# Altium integrated library Atmel AT40K.IntLib: 139 symbols (part 9 of 12)
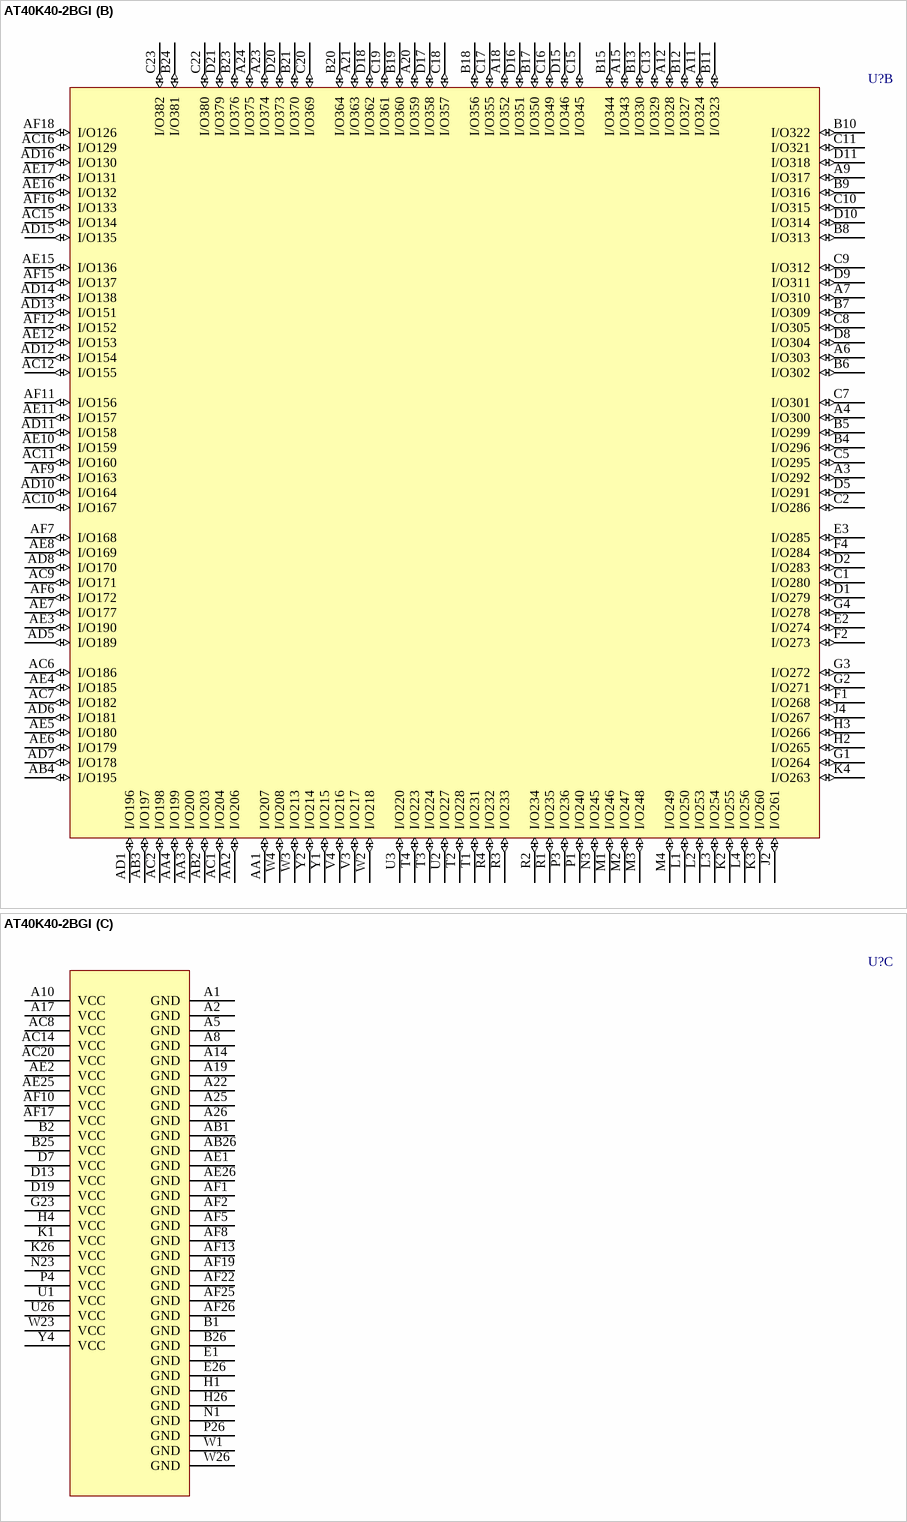
[diagram p96: symbol AT40K40-2BGI]

## AT40K40-2BGI
designator U?
AT40K40 5.0V FPGA, 289 User I/Os, 352-Ball SBGA, Speed Grade 2, Industrial Grade; Published: 17-Dec-2003; LatestRevisionDate: 13-Apr-2006; LatestRevisionNote: IPC-7351 Footprint Added.; DatasheetVersion: Rev. 0896C-04/02; PackageVersion: rev.A, Mar-2002; PackageReference: 352C1; Publisher: Altium Limited; PackageDescription: 352-ball, 35 x 35, Enhanced, Low-profile Square Ball Grid Array Package (SBGA); Supplier 1: Digi-Key; Supplier Part Number 1: AT40K40-2BGI-ND; Code_JEDEC: MO-192-BAR-2; ComponentLink1Description: Manufacturer Link; ComponentLink1URL: http://www.atmel.com/products/FPGA/; ComponentLink2Description: Datasheet; ComponentLink2URL: http://www.atmel.com/dyn/resources/prod_documents/DOC0896.PDF; ComponentLink3Description: Atmel.com Home; ComponentLink3URL: http://www.atmel.com
footprint 352C1 (BGA, 352-Leads, Body 35x35mm, Pitch 1.27mm)
part A pins: A13 I/O335(A6) (io), A16 I/O347(A10) (io), AA23 I/O93 (io), AA24 I/O86 (io), AA25 I/O84 (io), AA26 I/O81 (io), AB23 M1 (in), AB24 I/O94 (io), AB25 I/O85 (io), AC3 I/O194,GCK5 (io), AC4 ~{RESET} (in), AC5 I/O192,GCK4 (io), AC13 I/O146(D13) (io), AC17 I/O123 (io), AC18 I/O120 (io), AC19 I/O112 (io), AC21 I/O105 (io), AC22 I/O99 (io), AC23 M2 (in), AC24 I/O96,GCK2 (io), AC25 I/O92 (io), AC26 I/O90 (io), AD2 I/O193(D7) (io), AD3 ~{CON} (oc), AD4 I/O191(D8) (io), AD9 I/O166(D11) (io), AD17 I/O124 (io), AD18 I/O121 (io), AD19 I/O117 (io), AD20 I/O109 (io), AD21 I/O106 (io), AD22 I/O101 (io), AD23 I/O98(HDC) (io), AD24 M0 (in), AD25 I/O95(~{OTS}) (io), AD26 I/O91 (io), AE9 I/O165(D12) (io), AE13 I/O145(D14) (io), AE14 I/O143(D15) (io), AE18 I/O125 (io), AE19 I/O122 (io), AE20 I/O118 (io), AE21 I/O110 (io), AE22 I/O107 (io), AE23 I/O102(LDC) (io), AE24 I/O97,GCK3 (io), AF3 I/O184(D9) (io), AF4 I/O183(D10) (io), AF14 I/O144(INIT) (io), AF20 I/O119 (io), AF21 I/O111 (io), AF23 I/O108 (io), AF24 I/O100 (io), B3 I/O289(A0) (io), B14 I/O336(A7) (io), B16 I/O348(A11) (io), B22 I/O371(A12) (io), C3 CCLK (io), C4 I/O290,GCK7(A1) (io), C6 I/O298(A3) (io), C12 I/O326(A5) (io), C14 I/O338(A9) (io), C21 I/O372(A13) (io), C24 I/O384,GCK8(A15) (io), C25 I/O2(A17) (io), C26 I/O5(A18) (io), D3 I/O287(D0) (io), D4 TSTCLK, D6 I/O297(~{CS}1,A2) (io), D12 I/O325(A4) (io), D14 I/O337(A8) (io), D22 I/O383(A14) (io), D23 I/O1,GCK1(A16) (io), D24 I/O3 (io), D25 I/O9 (io), D26 I/O15 (io), E4 I/O288,GCK6(~{CSOUT}) (io), E23 I/O4 (io), E24 I/O6(A19) (io), E25 I/O12 (io), F3 I/O277(D1) (io), F23 I/O10 (io), F24 I/O11 (io), F25 I/O17 (io), F26 I/O18 (io), G24 I/O16 (io), G25 I/O23 (io), G26 I/O24 (io), H23 I/O21 (io), H24 I/O22 (io), H25 I/O27(A20) (io), J1 I/O259(D2) (io), J3 I/O262,FCK4 (io), J23 I/O25,FCK1 (io), J24 I/O26 (io), J25 I/O30 (io), J26 I/O33 (io), K23 I/O28(A21) (io), K24 I/O29 (io), K25 I/O36 (io), L23 I/O34 (io), L24 I/O35 (io), L25 I/O39 (io), L26 I/O40 (io), M23 I/O41 (io), M24 I/O42 (io), M25 I/O43 (io), M26 I/O44 (io), N2 I/O241(D3) (io), N4 I/O242(~{CHECK}) (io), N24 I/O47(A22) (io), N25 I/O48(A23) (io), N26 I/O49 (io), P2 I/O239(D4) (io), P23 I/O53 (io), P24 I/O54 (io), P25 I/O50 (io), R23 I/O58 (io), R24 I/O57 (io), R25 I/O56 (io), R26 I/O55 (io), T23 I/O67 (io), T24 I/O65 (io), T25 I/O62 (io), T26 I/O61 (io), U4 I/O219,FCK3 (io), U23 I/O72,FCK2 (io), U24 I/O69 (io), U25 I/O66 (io), V1 I/O222(CS0) (io), V2 I/O221(D5) (io), V23 I/O76 (io), V24 I/O71 (io), V25 I/O70 (io), V26 I/O68 (io), W24 I/O75 (io), W25 I/O74 (io), Y3 I/O205(D6) (io), Y23 I/O89 (io), Y24 I/O83 (io), Y25 I/O82 (io), Y26 I/O73 (io)
part B pins: A3 I/O292 (io), A4 I/O300 (io), A6 I/O303 (io), A7 I/O310 (io), A9 I/O317 (io), A11 I/O324 (io), A12 I/O328 (io), A15 I/O343 (io), A18 I/O352 (io), A20 I/O359 (io), A21 I/O363 (io), A23 I/O374 (io), A24 I/O375 (io), AA1 I/O207 (io), AA2 I/O206 (io), AA3 I/O200 (io), AA4 I/O199 (io), AB2 I/O203 (io), AB3 I/O197 (io), AB4 I/O195 (io), AC1 I/O204 (io), AC2 I/O198 (io), AC6 I/O186 (io), AC7 I/O182 (io), AC9 I/O171 (io), AC10 I/O167 (io), AC11 I/O160 (io), AC12 I/O155 (io), AC15 I/O134 (io), AC16 I/O129 (io), AD1 I/O196 (io), AD5 I/O189 (io), AD6 I/O181 (io), AD7 I/O178 (io), AD8 I/O170 (io), AD10 I/O164 (io), AD11 I/O158 (io), AD12 I/O154 (io), AD13 I/O151 (io), AD14 I/O138 (io), AD15 I/O135 (io), AD16 I/O130 (io), AE3 I/O190 (io), AE4 I/O185 (io), AE5 I/O180 (io), AE6 I/O179 (io), AE7 I/O177 (io), AE8 I/O169 (io), AE10 I/O159 (io), AE11 I/O157 (io), AE12 I/O153 (io), AE15 I/O136 (io), AE16 I/O132 (io), AE17 I/O131 (io), AF6 I/O172 (io), AF7 I/O168 (io), AF9 I/O163 (io), AF11 I/O156 (io), AF12 I/O152 (io), AF15 I/O137 (io), AF16 I/O133 (io), AF18 I/O126 (io), B4 I/O296 (io), B5 I/O299 (io), B6 I/O302 (io), B7 I/O309 (io), B8 I/O313 (io), B9 I/O316 (io), B10 I/O322 (io), B11 I/O323 (io), B12 I/O327 (io), B13 I/O330 (io), B15 I/O344 (io), B17 I/O350 (io), B18 I/O356 (io), B19 I/O360 (io), B20 I/O364 (io), B21 I/O370 (io), B23 I/O376 (io), B24 I/O381 (io), C1 I/O280 (io), C2 I/O286 (io), C5 I/O295 (io), C7 I/O301 (io), C8 I/O305 (io), C9 I/O312 (io), C10 I/O315 (io), C11 I/O321 (io), C13 I/O329 (io), C15 I/O345 (io), C16 I/O349 (io), C17 I/O355 (io), C18 I/O357 (io), C19 I/O361 (io), C20 I/O369 (io), C22 I/O380 (io), C23 I/O382 (io), D1 I/O279 (io), D2 I/O283 (io), D5 I/O291 (io), D8 I/O304 (io), D9 I/O311 (io), D10 I/O314 (io), D11 I/O318 (io), D15 I/O346 (io), D16 I/O351 (io), D17 I/O358 (io), D18 I/O362 (io), D20 I/O373 (io), D21 I/O379 (io), E2 I/O274 (io), E3 I/O285 (io), F1 I/O268 (io), F2 I/O273 (io), F4 I/O284 (io), G1 I/O264 (io), G2 I/O271 (io), G3 I/O272 (io), G4 I/O278 (io), H2 I/O265 (io), H3 I/O266 (io), J2 I/O261 (io), J4 I/O267 (io), K2 I/O255 (io), K3 I/O260 (io), K4 I/O263 (io), L1 I/O250 (io), L2 I/O253 (io), L3 I/O254 (io), L4 I/O256 (io), M1 I/O246 (io), M2 I/O247 (io), M3 I/O248 (io), M4 I/O249 (io), N3 I/O245 (io), P1 I/O240 (io), P3 I/O236 (io), R1 I/O235 (io), R2 I/O234 (io), R3 I/O233 (io), R4 I/O232 (io), T1 I/O231 (io), T2 I/O228 (io), T3 I/O224 (io), T4 I/O223 (io), U2 I/O227 (io), U3 I/O220 (io), V3 I/O217 (io), V4 I/O216 (io), W2 I/O218 (io), W3 I/O213 (io), W4 I/O208 (io), Y1 I/O215 (io), Y2 I/O214 (io)
part C pins: A1 GND (power), A2 GND (power), A5 GND (power), A8 GND (power), A10 VCC (power), A14 GND (power), A17 VCC (power), A19 GND (power), A22 GND (power), A25 GND (power), A26 GND (power), AB1 GND (power), AB26 GND (power), AC8 VCC (power), AC14 VCC (power), AC20 VCC (power), AE1 GND (power), AE2 VCC (power), AE25 VCC (power), AE26 GND (power), AF1 GND (power), AF2 GND (power), AF5 GND (power), AF8 GND (power), AF10 VCC (power), AF13 GND (power), AF17 VCC (power), AF19 GND (power), AF22 GND (power), AF25 GND (power), AF26 GND (power), B1 GND (power), B2 VCC (power), B25 VCC (power), B26 GND (power), D7 VCC (power), D13 VCC (power), D19 VCC (power), E1 GND (power), E26 GND (power), G23 VCC (power), H1 GND (power), H4 VCC (power), H26 GND (power), K1 VCC (power), K26 VCC (power), N1 GND (power), N23 VCC (power), P4 VCC (power), P26 GND (power), U1 VCC (power), U26 VCC (power), W1 GND (power), W23 VCC (power), W26 GND (power), Y4 VCC (power)

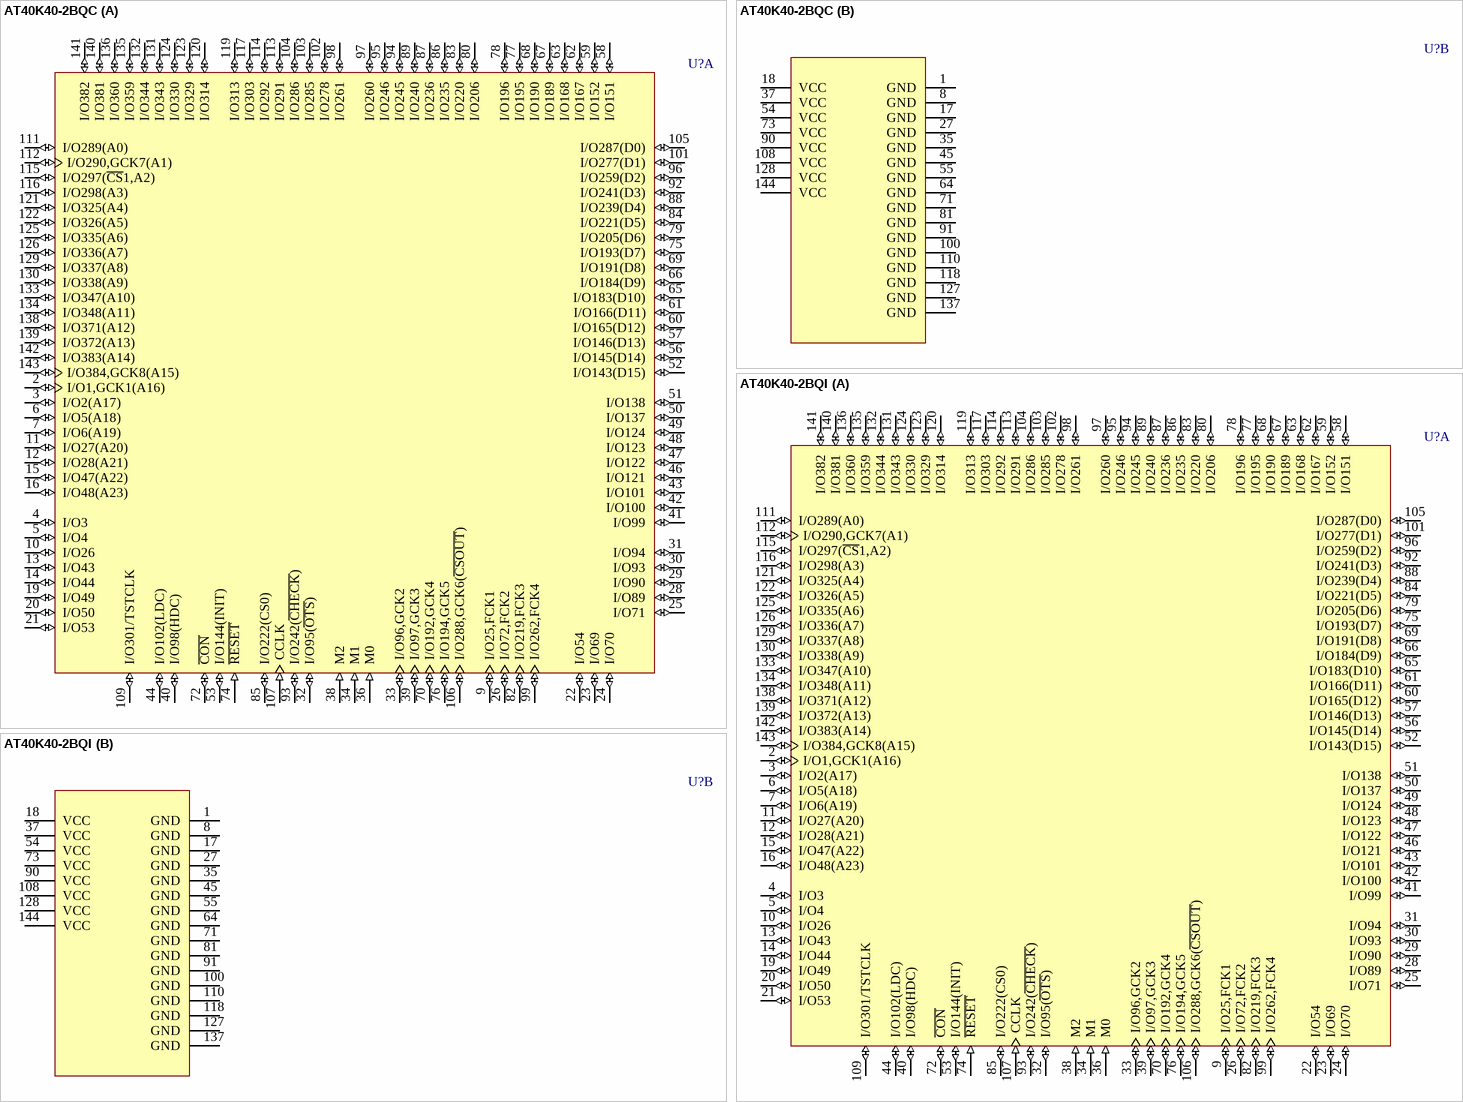
[diagram p57: symbols AT40K40-2BQC to AT40K40-2BQI]

## AT40K40-2BQC
designator U?
AT40K40 5.0V FPGA, 114 User I/Os, 144-Lead LQFP, Speed Grade 2, Commercial Grade; Published: 15-Apr-2002; LatestRevisionDate: 13-Apr-2006; LatestRevisionNote: IPC-7351 Footprint Added.; DatasheetVersion: Rev. 0896C-04/02; PackageVersion: rev.A, Nov-2001; PackageReference: 144L1; Publisher: Altium Limited; PackageDescription: 144-Pin Thin Quad Flat Pack 0.5 mm Pitch; Supplier 1: Digi-Key; Supplier Part Number 1: AT40K40-2BQC-ND; Supplier 2: Mouser; Supplier Part Number 2: 556-AT40K40-2BQC; Code_JEDEC: MS-026-BFB; ComponentLink1Description: Manufacturer Link; ComponentLink1URL: http://www.atmel.com/products/FPGA/; ComponentLink2Description: Datasheet; ComponentLink2URL: http://www.atmel.com/dyn/resources/prod_documents/DOC0896.PDF; ComponentLink3Description: Atmel.com Home; ComponentLink3URL: http://www.atmel.com
footprint 144L1_N (Thin QFP, 144-Leads, Body 20x20mm, Pitch 0.5mm, IPC Medium Density)
footprint 144L1_L (Thin QFP, 144-Leads, Body 20x20mm, Pitch 0.5mm, IPC High Density)
footprint 144L1_M (Thin QFP, 144-Leads, Body 20x20mm, Pitch 0.5mm, IPC Low Density)
part A pins: 2 I/O1,GCK1(A16) (io), 3 I/O2(A17) (io), 4 I/O3 (io), 5 I/O4 (io), 6 I/O5(A18) (io), 7 I/O6(A19) (io), 9 I/O25,FCK1 (io), 10 I/O26 (io), 11 I/O27(A20) (io), 12 I/O28(A21) (io), 13 I/O43 (io), 14 I/O44 (io), 15 I/O47(A22) (io), 16 I/O48(A23) (io), 19 I/O49 (io), 20 I/O50 (io), 21 I/O53 (io), 22 I/O54 (io), 23 I/O69 (io), 24 I/O70 (io), 25 I/O71 (io), 26 I/O72,FCK2 (io), 28 I/O89 (io), 29 I/O90 (io), 30 I/O93 (io), 31 I/O94 (io), 32 I/O95(~{OTS}) (io), 33 I/O96,GCK2 (io), 34 M1 (in), 36 M0 (in), 38 M2 (in), 39 I/O97,GCK3 (io), 40 I/O98(HDC) (io), 41 I/O99 (io), 42 I/O100 (io), 43 I/O101 (io), 44 I/O102(LDC) (io), 46 I/O121 (io), 47 I/O122 (io), 48 I/O123 (io), 49 I/O124 (io), 50 I/O137 (io), 51 I/O138 (io), 52 I/O143(D15) (io), 53 I/O144(INIT) (io), 56 I/O145(D14) (io), 57 I/O146(D13) (io), 58 I/O151 (io), 59 I/O152 (io), 60 I/O165(D12) (io), 61 I/O166(D11) (io), 62 I/O167 (io), 63 I/O168 (io), 65 I/O183(D10) (io), 66 I/O184(D9) (io), 67 I/O189 (io), 68 I/O190 (io), 69 I/O191(D8) (io), 70 I/O192,GCK4 (io), 72 ~{CON} (io), 74 ~{RESET} (in), 75 I/O193(D7) (io), 76 I/O194,GCK5 (io), 77 I/O195 (io), 78 I/O196 (io), 79 I/O205(D6) (io), 80 I/O206 (io), 82 I/O219,FCK3 (io), 83 I/O220 (io), 84 I/O221(D5) (io), 85 I/O222(CS0) (io), 86 I/O235 (io), 87 I/O236 (io), 88 I/O239(D4) (io), 89 I/O240 (io), 92 I/O241(D3) (io), 93 I/O242(~{CHECK}) (io), 94 I/O245 (io), 95 I/O246 (io), 96 I/O259(D2) (io), 97 I/O260 (io), 98 I/O261 (io), 99 I/O262,FCK4 (io), 101 I/O277(D1) (io), 102 I/O278 (io), 103 I/O285 (io), 104 I/O286 (io), 105 I/O287(D0) (io), 106 I/O288,GCK6(~{CSOUT}) (io), 107 CCLK (in), 109 I/O301/TSTCLK (io), 111 I/O289(A0) (io), 112 I/O290,GCK7(A1) (io), 113 I/O291 (io), 114 I/O292 (io), 115 I/O297(~{CS}1,A2) (io), 116 I/O298(A3) (io), 117 I/O303 (io), 119 I/O313 (io), 120 I/O314 (io), 121 I/O325(A4) (io), 122 I/O326(A5) (io), 123 I/O329 (io), 124 I/O330 (io), 125 I/O335(A6) (io), 126 I/O336(A7) (io), 129 I/O337(A8) (io), 130 I/O338(A9) (io), 131 I/O343 (io), 132 I/O344 (io), 133 I/O347(A10) (io), 134 I/O348(A11) (io), 135 I/O359 (io), 136 I/O360 (io), 138 I/O371(A12) (io), 139 I/O372(A13) (io), 140 I/O381 (io), 141 I/O382 (io), 142 I/O383(A14) (io), 143 I/O384,GCK8(A15) (io)
part B pins: 1 GND (power), 8 GND (power), 17 GND (power), 18 VCC (power), 27 GND (power), 35 GND (power), 37 VCC (power), 45 GND (power), 54 VCC (power), 55 GND (power), 64 GND (power), 71 GND (power), 73 VCC (power), 81 GND (power), 90 VCC (power), 91 GND (power), 100 GND (power), 108 VCC (power), 110 GND (power), 118 GND (power), 127 GND (power), 128 VCC (power), 137 GND (power), 144 VCC (power)

## AT40K40-2BQI
designator U?
AT40K40 5.0V FPGA, 114 User I/Os, 144-Lead LQFP, Speed Grade 2, Industrial Grade; Published: 15-Apr-2002; LatestRevisionDate: 13-Apr-2006; LatestRevisionNote: IPC-7351 Footprint Added.; DatasheetVersion: Rev. 0896C-04/02; PackageVersion: rev.A, Nov-2001; PackageReference: 144L1; Publisher: Altium Limited; PackageDescription: 144-Pin Thin Quad Flat Pack 0.5 mm Pitch; Supplier 1: Digi-Key; Supplier Part Number 1: AT40K40-2BQI-ND; Supplier 2: Mouser; Supplier Part Number 2: 556-AT40K40-2BQI; Code_JEDEC: MS-026-BFB; ComponentLink1Description: Manufacturer Link; ComponentLink1URL: http://www.atmel.com/products/FPGA/; ComponentLink2Description: Datasheet; ComponentLink2URL: http://www.atmel.com/dyn/resources/prod_documents/DOC0896.PDF; ComponentLink3Description: Atmel.com Home; ComponentLink3URL: http://www.atmel.com
footprint 144L1_N (Thin QFP, 144-Leads, Body 20x20mm, Pitch 0.5mm, IPC Medium Density)
footprint 144L1_L (Thin QFP, 144-Leads, Body 20x20mm, Pitch 0.5mm, IPC High Density)
footprint 144L1_M (Thin QFP, 144-Leads, Body 20x20mm, Pitch 0.5mm, IPC Low Density)
part A pins: 2 I/O1,GCK1(A16) (io), 3 I/O2(A17) (io), 4 I/O3 (io), 5 I/O4 (io), 6 I/O5(A18) (io), 7 I/O6(A19) (io), 9 I/O25,FCK1 (io), 10 I/O26 (io), 11 I/O27(A20) (io), 12 I/O28(A21) (io), 13 I/O43 (io), 14 I/O44 (io), 15 I/O47(A22) (io), 16 I/O48(A23) (io), 19 I/O49 (io), 20 I/O50 (io), 21 I/O53 (io), 22 I/O54 (io), 23 I/O69 (io), 24 I/O70 (io), 25 I/O71 (io), 26 I/O72,FCK2 (io), 28 I/O89 (io), 29 I/O90 (io), 30 I/O93 (io), 31 I/O94 (io), 32 I/O95(~{OTS}) (io), 33 I/O96,GCK2 (io), 34 M1 (in), 36 M0 (in), 38 M2 (in), 39 I/O97,GCK3 (io), 40 I/O98(HDC) (io), 41 I/O99 (io), 42 I/O100 (io), 43 I/O101 (io), 44 I/O102(LDC) (io), 46 I/O121 (io), 47 I/O122 (io), 48 I/O123 (io), 49 I/O124 (io), 50 I/O137 (io), 51 I/O138 (io), 52 I/O143(D15) (io), 53 I/O144(INIT) (io), 56 I/O145(D14) (io), 57 I/O146(D13) (io), 58 I/O151 (io), 59 I/O152 (io), 60 I/O165(D12) (io), 61 I/O166(D11) (io), 62 I/O167 (io), 63 I/O168 (io), 65 I/O183(D10) (io), 66 I/O184(D9) (io), 67 I/O189 (io), 68 I/O190 (io), 69 I/O191(D8) (io), 70 I/O192,GCK4 (io), 72 ~{CON} (io), 74 ~{RESET} (in), 75 I/O193(D7) (io), 76 I/O194,GCK5 (io), 77 I/O195 (io), 78 I/O196 (io), 79 I/O205(D6) (io), 80 I/O206 (io), 82 I/O219,FCK3 (io), 83 I/O220 (io), 84 I/O221(D5) (io), 85 I/O222(CS0) (io), 86 I/O235 (io), 87 I/O236 (io), 88 I/O239(D4) (io), 89 I/O240 (io), 92 I/O241(D3) (io), 93 I/O242(~{CHECK}) (io), 94 I/O245 (io), 95 I/O246 (io), 96 I/O259(D2) (io), 97 I/O260 (io), 98 I/O261 (io), 99 I/O262,FCK4 (io), 101 I/O277(D1) (io), 102 I/O278 (io), 103 I/O285 (io), 104 I/O286 (io), 105 I/O287(D0) (io), 106 I/O288,GCK6(~{CSOUT}) (io), 107 CCLK (in), 109 I/O301/TSTCLK (io), 111 I/O289(A0) (io), 112 I/O290,GCK7(A1) (io), 113 I/O291 (io), 114 I/O292 (io), 115 I/O297(~{CS}1,A2) (io), 116 I/O298(A3) (io), 117 I/O303 (io), 119 I/O313 (io), 120 I/O314 (io), 121 I/O325(A4) (io), 122 I/O326(A5) (io), 123 I/O329 (io), 124 I/O330 (io), 125 I/O335(A6) (io), 126 I/O336(A7) (io), 129 I/O337(A8) (io), 130 I/O338(A9) (io), 131 I/O343 (io), 132 I/O344 (io), 133 I/O347(A10) (io), 134 I/O348(A11) (io), 135 I/O359 (io), 136 I/O360 (io), 138 I/O371(A12) (io), 139 I/O372(A13) (io), 140 I/O381 (io), 141 I/O382 (io), 142 I/O383(A14) (io), 143 I/O384,GCK8(A15) (io)
part B pins: 1 GND (power), 8 GND (power), 17 GND (power), 18 VCC (power), 27 GND (power), 35 GND (power), 37 VCC (power), 45 GND (power), 54 VCC (power), 55 GND (power), 64 GND (power), 71 GND (power), 73 VCC (power), 81 GND (power), 90 VCC (power), 91 GND (power), 100 GND (power), 108 VCC (power), 110 GND (power), 118 GND (power), 127 GND (power), 128 VCC (power), 137 GND (power), 144 VCC (power)

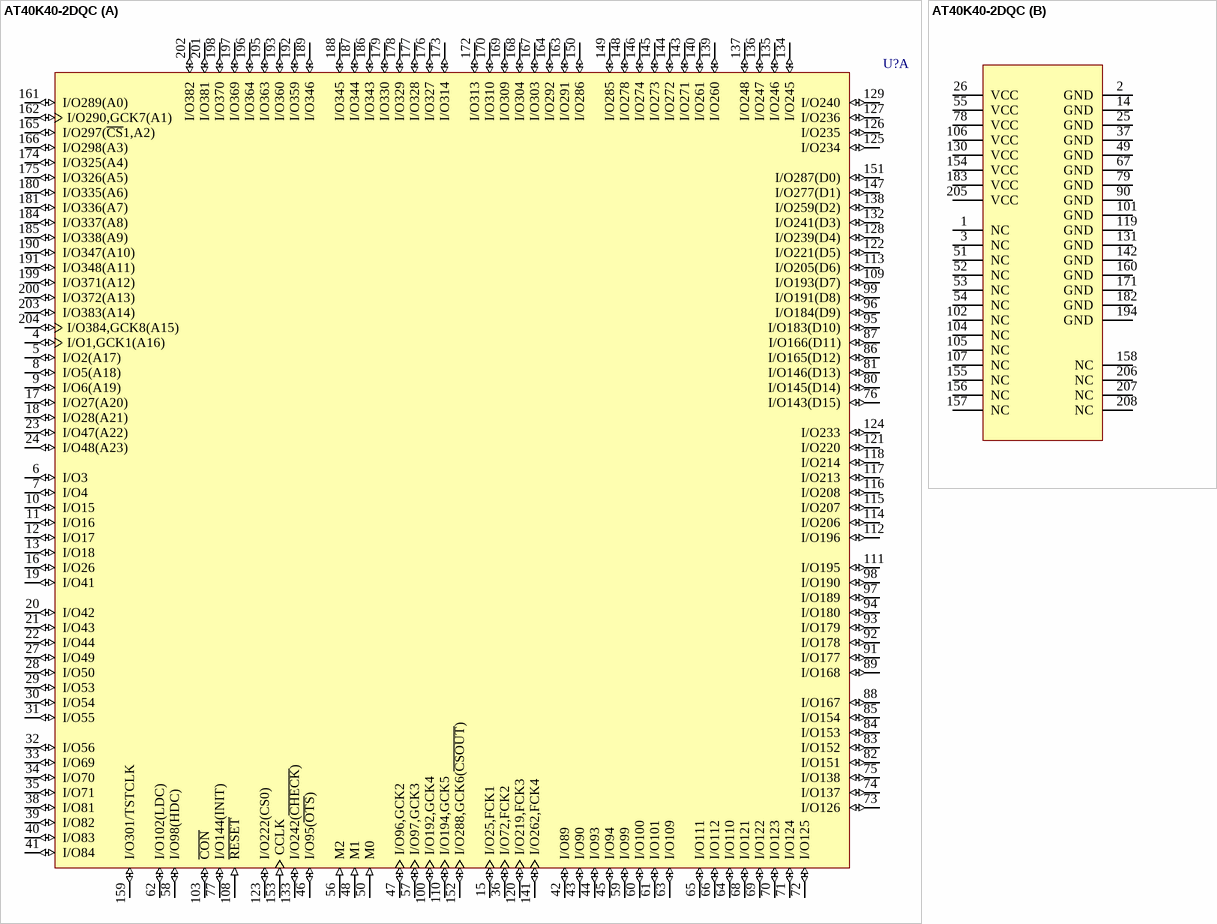
[diagram p58: symbol AT40K40-2DQC]

## AT40K40-2DQC
designator U?
AT40K40 5.0V FPGA, 161 User I/Os, 208-Lead PQFP, Speed Grade 2, Commercial Grade; Published: 15-Apr-2002; LatestRevisionDate: 13-Apr-2006; LatestRevisionNote: IPC-7351 Footprint Added.; DatasheetVersion: Rev. 0896C-04/02; PackageVersion: rev.A, Nov-2001; PackageReference: 208Q1; Publisher: Altium Limited; PackageDescription: 208-Pin Shrink Quad Flat Pack 0.5 mm Pitch; Supplier 1: Digi-Key; Supplier Part Number 1: AT40K40-2DQC-ND; Supplier 2: Mouser; Supplier Part Number 2: 556-AT40K40-2DQC; ComponentLink1Description: Manufacturer Link; ComponentLink1URL: http://www.atmel.com/products/FPGA/; ComponentLink2Description: Datasheet; ComponentLink2URL: http://www.atmel.com/dyn/resources/prod_documents/DOC0896.PDF; ComponentLink3Description: Atmel.com Home; ComponentLink3URL: http://www.atmel.com
footprint 208Q1_N (Shrink QFP, 208-Leads, Body 28x28mm, Pitch 0.5mm, IPC Medium Density)
footprint 208Q1_L (Shrink QFP, 208-Leads, Body 28x28mm, Pitch 0.5mm, IPC High Density)
footprint 208Q1_M (Shrink QFP, 208-Leads, Body 28x28mm, Pitch 0.5mm, IPC Low Density)
part A pins: 4 I/O1,GCK1(A16) (io), 5 I/O2(A17) (io), 6 I/O3 (io), 7 I/O4 (io), 8 I/O5(A18) (io), 9 I/O6(A19) (io), 10 I/O15 (io), 11 I/O16 (io), 12 I/O17 (io), 13 I/O18 (io), 15 I/O25,FCK1 (io), 16 I/O26 (io), 17 I/O27(A20) (io), 18 I/O28(A21) (io), 19 I/O41 (io), 20 I/O42 (io), 21 I/O43 (io), 22 I/O44 (io), 23 I/O47(A22) (io), 24 I/O48(A23) (io), 27 I/O49 (io), 28 I/O50 (io), 29 I/O53 (io), 30 I/O54 (io), 31 I/O55 (io), 32 I/O56 (io), 33 I/O69 (io), 34 I/O70 (io), 35 I/O71 (io), 36 I/O72,FCK2 (io), 38 I/O81 (io), 39 I/O82 (io), 40 I/O83 (io), 41 I/O84 (io), 42 I/O89 (io), 43 I/O90 (io), 44 I/O93 (io), 45 I/O94 (io), 46 I/O95(~{OTS}) (io), 47 I/O96,GCK2 (io), 48 M1 (in), 50 M0 (in), 56 M2 (in), 57 I/O97,GCK3 (io), 58 I/O98(HDC) (io), 59 I/O99 (io), 60 I/O100 (io), 61 I/O101 (io), 62 I/O102(LDC) (io), 63 I/O109 (io), 64 I/O110 (io), 65 I/O111 (io), 66 I/O112 (io), 68 I/O121 (io), 69 I/O122 (io), 70 I/O123 (io), 71 I/O124 (io), 72 I/O125 (io), 73 I/O126 (io), 74 I/O137 (io), 75 I/O138 (io), 76 I/O143(D15) (io), 77 I/O144(INIT) (io), 80 I/O145(D14) (io), 81 I/O146(D13) (io), 82 I/O151 (io), 83 I/O152 (io), 84 I/O153 (io), 85 I/O154 (io), 86 I/O165(D12) (io), 87 I/O166(D11) (io), 88 I/O167 (io), 89 I/O168 (io), 91 I/O177 (io), 92 I/O178 (io), 93 I/O179 (io), 94 I/O180 (io), 95 I/O183(D10) (io), 96 I/O184(D9) (io), 97 I/O189 (io), 98 I/O190 (io), 99 I/O191(D8) (io), 100 I/O192,GCK4 (io), 103 ~{CON} (io), 108 ~{RESET} (in), 109 I/O193(D7) (io), 110 I/O194,GCK5 (io), 111 I/O195 (io), 112 I/O196 (io), 113 I/O205(D6) (io), 114 I/O206 (io), 115 I/O207 (io), 116 I/O208 (io), 117 I/O213 (io), 118 I/O214 (io), 120 I/O219,FCK3 (io), 121 I/O220 (io), 122 I/O221(D5) (io), 123 I/O222(CS0) (io), 124 I/O233 (io), 125 I/O234 (io), 126 I/O235 (io), 127 I/O236 (io), 128 I/O239(D4) (io), 129 I/O240 (io), 132 I/O241(D3) (io), 133 I/O242(~{CHECK}) (io), 134 I/O245 (io), 135 I/O246 (io), 136 I/O247 (io), 137 I/O248 (io), 138 I/O259(D2) (io), 139 I/O260 (io), 140 I/O261 (io), 141 I/O262,FCK4 (io), 143 I/O271 (io), 144 I/O272 (io), 145 I/O273 (io), 146 I/O274 (io), 147 I/O277(D1) (io), 148 I/O278 (io), 149 I/O285 (io), 150 I/O286 (io), 151 I/O287(D0) (io), 152 I/O288,GCK6(~{CSOUT}) (io), 153 CCLK (in), 159 I/O301/TSTCLK (io), 161 I/O289(A0) (io), 162 I/O290,GCK7(A1) (io), 163 I/O291 (io), 164 I/O292 (io), 165 I/O297(~{CS}1,A2) (io), 166 I/O298(A3) (io), 167 I/O303 (io), 168 I/O304 (io), 169 I/O309 (io), 170 I/O310 (io), 172 I/O313 (io), 173 I/O314 (io), 174 I/O325(A4) (io), 175 I/O326(A5) (io), 176 I/O327 (io), 177 I/O328 (io), 178 I/O329 (io), 179 I/O330 (io), 180 I/O335(A6) (io), 181 I/O336(A7) (io), 184 I/O337(A8) (io), 185 I/O338(A9) (io), 186 I/O343 (io), 187 I/O344 (io), 188 I/O345 (io), 189 I/O346 (io), 190 I/O347(A10) (io), 191 I/O348(A11) (io), 192 I/O359 (io), 193 I/O360 (io), 195 I/O363 (io), 196 I/O364 (io), 197 I/O369 (io), 198 I/O370 (io), 199 I/O371(A12) (io), 200 I/O372(A13) (io), 201 I/O381 (io), 202 I/O382 (io), 203 I/O383(A14) (io), 204 I/O384,GCK8(A15) (io)
part B pins: 1 NC, 2 GND (power), 3 NC, 14 GND (power), 25 GND (power), 26 VCC (power), 37 GND (power), 49 GND (power), 51 NC, 52 NC, 53 NC, 54 NC, 55 VCC (power), 67 GND (power), 78 VCC (power), 79 GND (power), 90 GND (power), 101 GND (power), 102 NC, 104 NC, 105 NC, 106 VCC (power), 107 NC, 119 GND (power), 130 VCC (power), 131 GND (power), 142 GND (power), 154 VCC (power), 155 NC, 156 NC, 157 NC, 158 NC, 160 GND (power), 171 GND (power), 182 GND (power), 183 VCC (power), 194 GND (power), 205 VCC (power), 206 NC, 207 NC, 208 NC

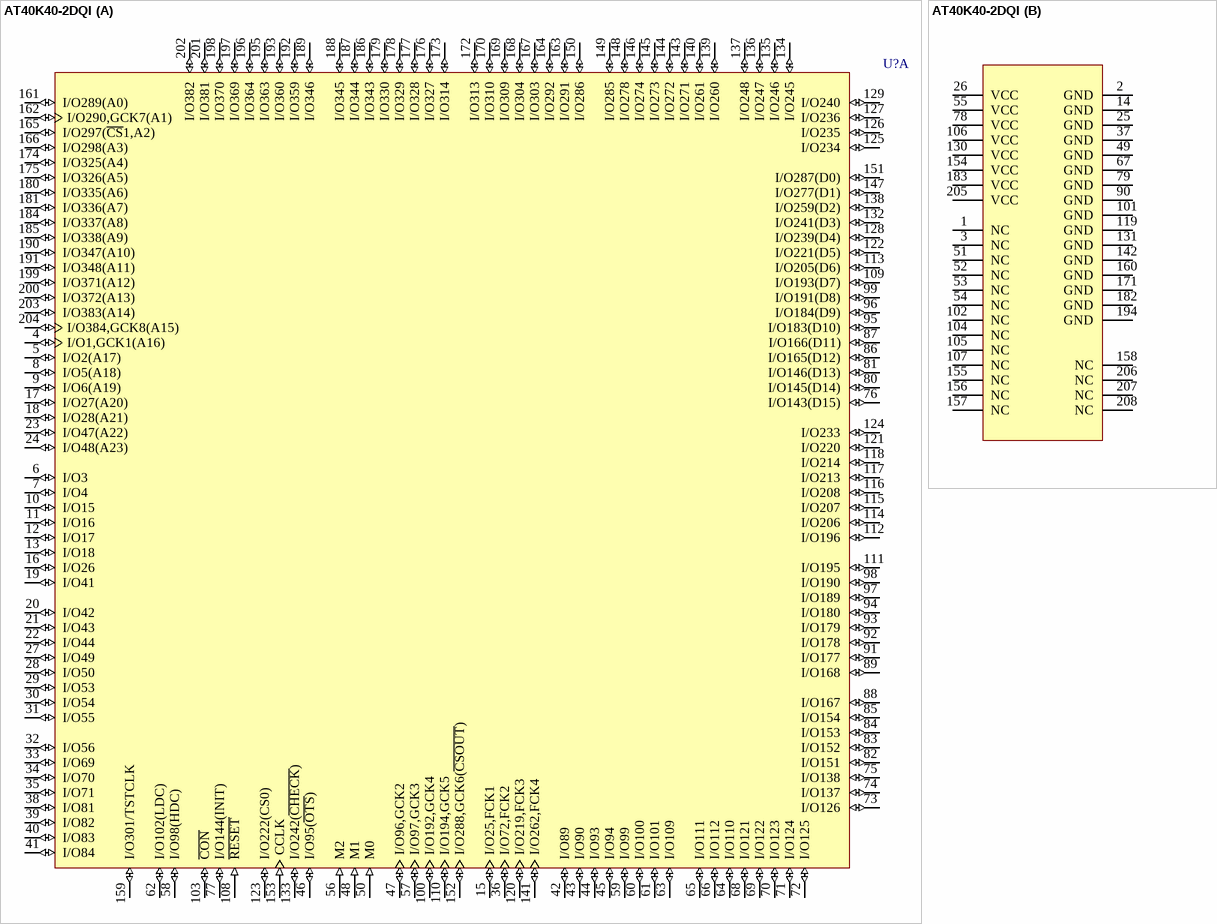
[diagram p59: symbol AT40K40-2DQI]

## AT40K40-2DQI
designator U?
AT40K40 5.0V FPGA, 161 User I/Os, 208-Lead PQFP, Speed Grade 2, Industrial Grade; Published: 15-Apr-2002; LatestRevisionDate: 13-Apr-2006; LatestRevisionNote: IPC-7351 Footprint Added.; DatasheetVersion: Rev. 0896C-04/02; PackageVersion: rev.A, Nov-2001; PackageReference: 208Q1; Publisher: Altium Limited; PackageDescription: 208-Pin Shrink Quad Flat Pack 0.5 mm Pitch; Supplier 1: Digi-Key; Supplier Part Number 1: AT40K40-2DQI-ND; Supplier 2: Mouser; Supplier Part Number 2: 556-AT40K40-2DQI; ComponentLink1Description: Manufacturer Link; ComponentLink1URL: http://www.atmel.com/products/FPGA/; ComponentLink2Description: Datasheet; ComponentLink2URL: http://www.atmel.com/dyn/resources/prod_documents/DOC0896.PDF; ComponentLink3Description: Atmel.com Home; ComponentLink3URL: http://www.atmel.com
footprint 208Q1_N (Shrink QFP, 208-Leads, Body 28x28mm, Pitch 0.5mm, IPC Medium Density)
footprint 208Q1_L (Shrink QFP, 208-Leads, Body 28x28mm, Pitch 0.5mm, IPC High Density)
footprint 208Q1_M (Shrink QFP, 208-Leads, Body 28x28mm, Pitch 0.5mm, IPC Low Density)
part A pins: 4 I/O1,GCK1(A16) (io), 5 I/O2(A17) (io), 6 I/O3 (io), 7 I/O4 (io), 8 I/O5(A18) (io), 9 I/O6(A19) (io), 10 I/O15 (io), 11 I/O16 (io), 12 I/O17 (io), 13 I/O18 (io), 15 I/O25,FCK1 (io), 16 I/O26 (io), 17 I/O27(A20) (io), 18 I/O28(A21) (io), 19 I/O41 (io), 20 I/O42 (io), 21 I/O43 (io), 22 I/O44 (io), 23 I/O47(A22) (io), 24 I/O48(A23) (io), 27 I/O49 (io), 28 I/O50 (io), 29 I/O53 (io), 30 I/O54 (io), 31 I/O55 (io), 32 I/O56 (io), 33 I/O69 (io), 34 I/O70 (io), 35 I/O71 (io), 36 I/O72,FCK2 (io), 38 I/O81 (io), 39 I/O82 (io), 40 I/O83 (io), 41 I/O84 (io), 42 I/O89 (io), 43 I/O90 (io), 44 I/O93 (io), 45 I/O94 (io), 46 I/O95(~{OTS}) (io), 47 I/O96,GCK2 (io), 48 M1 (in), 50 M0 (in), 56 M2 (in), 57 I/O97,GCK3 (io), 58 I/O98(HDC) (io), 59 I/O99 (io), 60 I/O100 (io), 61 I/O101 (io), 62 I/O102(LDC) (io), 63 I/O109 (io), 64 I/O110 (io), 65 I/O111 (io), 66 I/O112 (io), 68 I/O121 (io), 69 I/O122 (io), 70 I/O123 (io), 71 I/O124 (io), 72 I/O125 (io), 73 I/O126 (io), 74 I/O137 (io), 75 I/O138 (io), 76 I/O143(D15) (io), 77 I/O144(INIT) (io), 80 I/O145(D14) (io), 81 I/O146(D13) (io), 82 I/O151 (io), 83 I/O152 (io), 84 I/O153 (io), 85 I/O154 (io), 86 I/O165(D12) (io), 87 I/O166(D11) (io), 88 I/O167 (io), 89 I/O168 (io), 91 I/O177 (io), 92 I/O178 (io), 93 I/O179 (io), 94 I/O180 (io), 95 I/O183(D10) (io), 96 I/O184(D9) (io), 97 I/O189 (io), 98 I/O190 (io), 99 I/O191(D8) (io), 100 I/O192,GCK4 (io), 103 ~{CON} (io), 108 ~{RESET} (in), 109 I/O193(D7) (io), 110 I/O194,GCK5 (io), 111 I/O195 (io), 112 I/O196 (io), 113 I/O205(D6) (io), 114 I/O206 (io), 115 I/O207 (io), 116 I/O208 (io), 117 I/O213 (io), 118 I/O214 (io), 120 I/O219,FCK3 (io), 121 I/O220 (io), 122 I/O221(D5) (io), 123 I/O222(CS0) (io), 124 I/O233 (io), 125 I/O234 (io), 126 I/O235 (io), 127 I/O236 (io), 128 I/O239(D4) (io), 129 I/O240 (io), 132 I/O241(D3) (io), 133 I/O242(~{CHECK}) (io), 134 I/O245 (io), 135 I/O246 (io), 136 I/O247 (io), 137 I/O248 (io), 138 I/O259(D2) (io), 139 I/O260 (io), 140 I/O261 (io), 141 I/O262,FCK4 (io), 143 I/O271 (io), 144 I/O272 (io), 145 I/O273 (io), 146 I/O274 (io), 147 I/O277(D1) (io), 148 I/O278 (io), 149 I/O285 (io), 150 I/O286 (io), 151 I/O287(D0) (io), 152 I/O288,GCK6(~{CSOUT}) (io), 153 CCLK (in), 159 I/O301/TSTCLK (io), 161 I/O289(A0) (io), 162 I/O290,GCK7(A1) (io), 163 I/O291 (io), 164 I/O292 (io), 165 I/O297(~{CS}1,A2) (io), 166 I/O298(A3) (io), 167 I/O303 (io), 168 I/O304 (io), 169 I/O309 (io), 170 I/O310 (io), 172 I/O313 (io), 173 I/O314 (io), 174 I/O325(A4) (io), 175 I/O326(A5) (io), 176 I/O327 (io), 177 I/O328 (io), 178 I/O329 (io), 179 I/O330 (io), 180 I/O335(A6) (io), 181 I/O336(A7) (io), 184 I/O337(A8) (io), 185 I/O338(A9) (io), 186 I/O343 (io), 187 I/O344 (io), 188 I/O345 (io), 189 I/O346 (io), 190 I/O347(A10) (io), 191 I/O348(A11) (io), 192 I/O359 (io), 193 I/O360 (io), 195 I/O363 (io), 196 I/O364 (io), 197 I/O369 (io), 198 I/O370 (io), 199 I/O371(A12) (io), 200 I/O372(A13) (io), 201 I/O381 (io), 202 I/O382 (io), 203 I/O383(A14) (io), 204 I/O384,GCK8(A15) (io)
part B pins: 1 NC, 2 GND (power), 3 NC, 14 GND (power), 25 GND (power), 26 VCC (power), 37 GND (power), 49 GND (power), 51 NC, 52 NC, 53 NC, 54 NC, 55 VCC (power), 67 GND (power), 78 VCC (power), 79 GND (power), 90 GND (power), 101 GND (power), 102 NC, 104 NC, 105 NC, 106 VCC (power), 107 NC, 119 GND (power), 130 VCC (power), 131 GND (power), 142 GND (power), 154 VCC (power), 155 NC, 156 NC, 157 NC, 158 NC, 160 GND (power), 171 GND (power), 182 GND (power), 183 VCC (power), 194 GND (power), 205 VCC (power), 206 NC, 207 NC, 208 NC

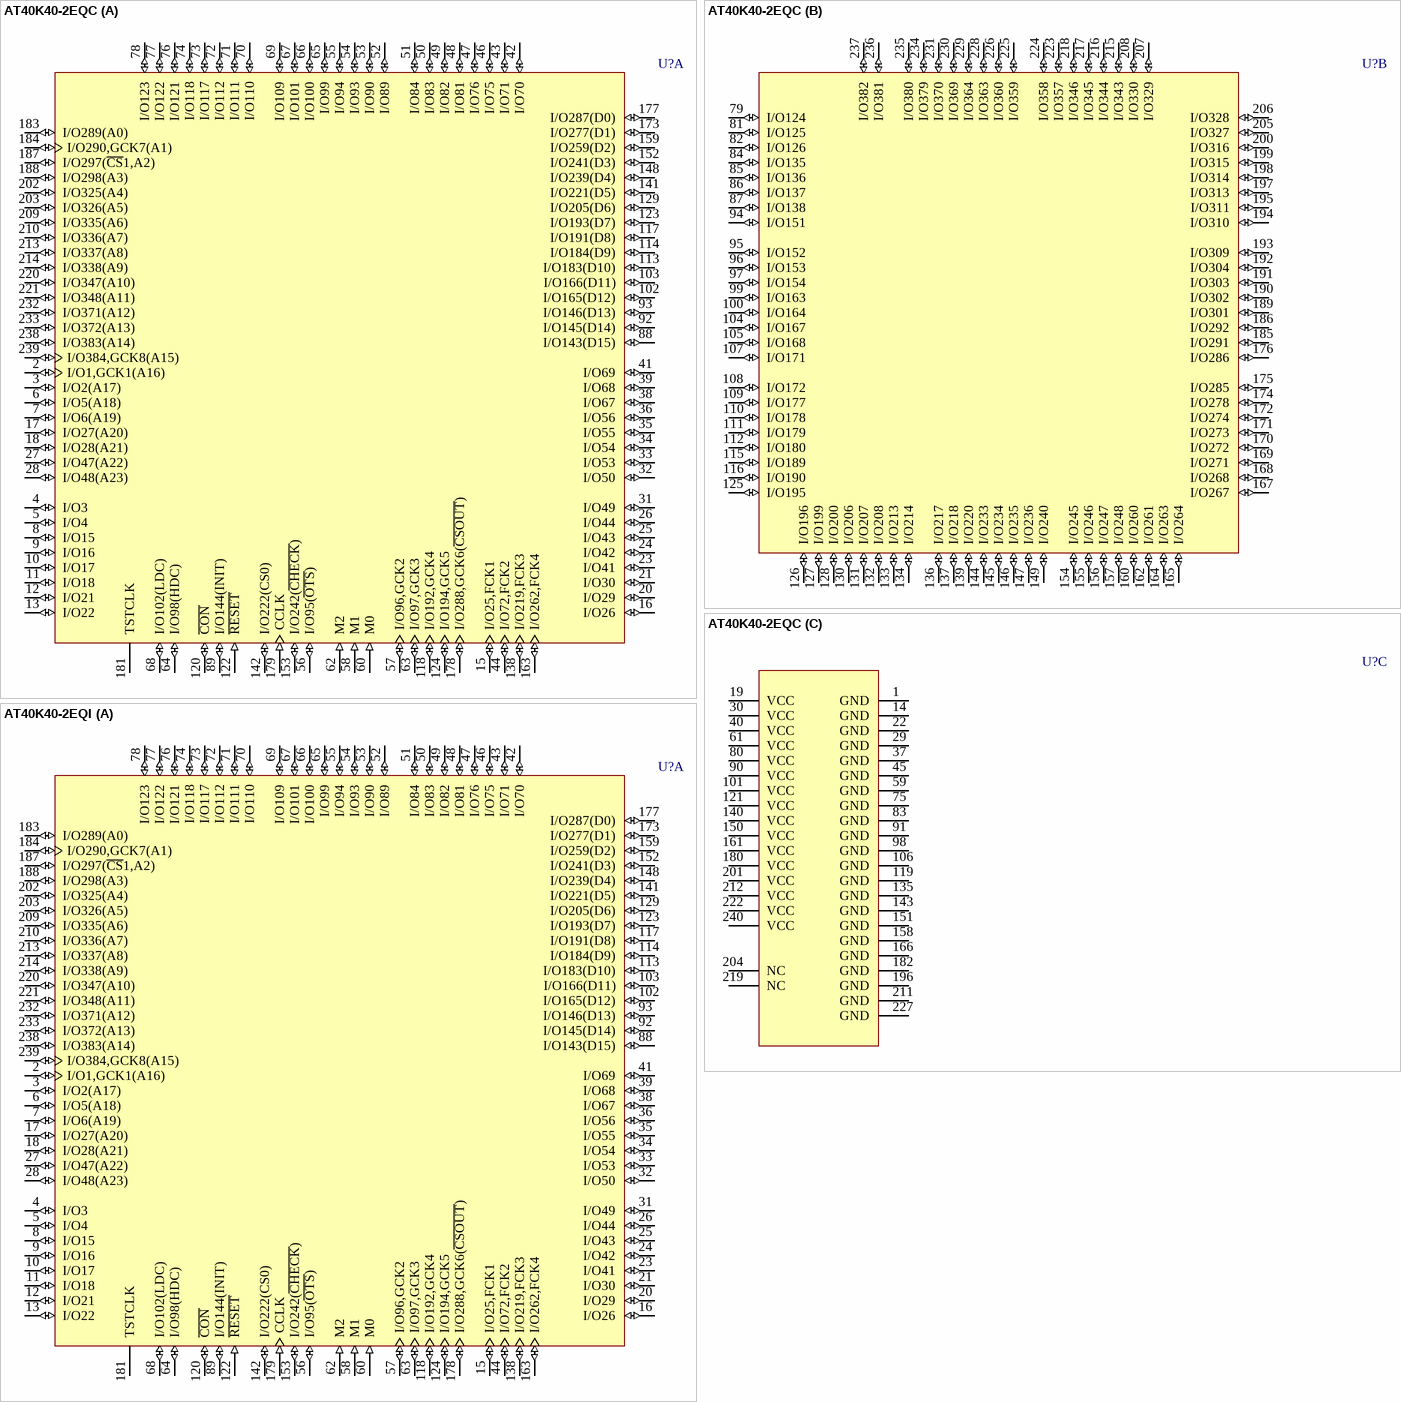
[diagram p60: symbols AT40K40-2EQC to AT40K40-2EQI]

## AT40K40-2EQC
designator U?
AT40K40 5.0V FPGA, 193 User I/Os, 240-Lead PQFP, Speed Grade 2, Commercial Grade; Published: 15-Apr-2002; LatestRevisionDate: 13-Apr-2006; LatestRevisionNote: IPC-7351 Footprint Added.; DatasheetVersion: Rev. 0896C-04/02; PackageVersion: rev.A, Mar-2002; PackageReference: 240Q1; Publisher: Altium Limited; PackageDescription: 240-Pin Shrink Quad Flat Pack 0.5 mm Pitch; Supplier 1: Digi-Key; Supplier Part Number 1: AT40K40-2EQC-ND; Supplier 2: Mouser; Supplier Part Number 2: 556-AT40K40-2EQC; Code_JEDEC: MS-029-GA; ComponentLink1Description: Manufacturer Link; ComponentLink1URL: http://www.atmel.com/products/FPGA/; ComponentLink2Description: Datasheet; ComponentLink2URL: http://www.atmel.com/dyn/resources/prod_documents/DOC0896.PDF; ComponentLink3Description: Atmel.com Home; ComponentLink3URL: http://www.atmel.com
footprint 240Q1_N (Shrink QFP, 240-Leads, Body 32x32mm, Pitch 0.5mm, IPC Medium Density)
footprint 240Q1_L (Shrink QFP, 240-Leads, Body 32x32mm, Pitch 0.5mm, IPC High Density)
footprint 240Q1_M (Shrink QFP, 240-Leads, Body 32x32mm, Pitch 0.5mm, IPC Low Density)
part A pins: 2 I/O1,GCK1(A16) (io), 3 I/O2(A17) (io), 4 I/O3 (io), 5 I/O4 (io), 6 I/O5(A18) (io), 7 I/O6(A19) (io), 8 I/O15 (io), 9 I/O16 (io), 10 I/O17 (io), 11 I/O18 (io), 12 I/O21 (io), 13 I/O22 (io), 15 I/O25,FCK1 (io), 16 I/O26 (io), 17 I/O27(A20) (io), 18 I/O28(A21) (io), 20 I/O29 (io), 21 I/O30 (io), 23 I/O41 (io), 24 I/O42 (io), 25 I/O43 (io), 26 I/O44 (io), 27 I/O47(A22) (io), 28 I/O48(A23) (io), 31 I/O49 (io), 32 I/O50 (io), 33 I/O53 (io), 34 I/O54 (io), 35 I/O55 (io), 36 I/O56 (io), 38 I/O67 (io), 39 I/O68 (io), 41 I/O69 (io), 42 I/O70 (io), 43 I/O71 (io), 44 I/O72,FCK2 (io), 46 I/O75 (io), 47 I/O76 (io), 48 I/O81 (io), 49 I/O82 (io), 50 I/O83 (io), 51 I/O84 (io), 52 I/O89 (io), 53 I/O90 (io), 54 I/O93 (io), 55 I/O94 (io), 56 I/O95(~{OTS}) (io), 57 I/O96,GCK2 (io), 58 M1 (in), 60 M0 (in), 62 M2 (in), 63 I/O97,GCK3 (io), 64 I/O98(HDC) (io), 65 I/O99 (io), 66 I/O100 (io), 67 I/O101 (io), 68 I/O102(LDC) (io), 69 I/O109 (io), 70 I/O110 (io), 71 I/O111 (io), 72 I/O112 (io), 73 I/O117 (io), 74 I/O118 (io), 76 I/O121 (io), 77 I/O122 (io), 78 I/O123 (io), 88 I/O143(D15) (io), 89 I/O144(INIT) (io), 92 I/O145(D14) (io), 93 I/O146(D13) (io), 102 I/O165(D12) (io), 103 I/O166(D11) (io), 113 I/O183(D10) (io), 114 I/O184(D9) (io), 117 I/O191(D8) (io), 118 I/O192,GCK4 (io), 120 ~{CON} (io), 122 ~{RESET} (in), 123 I/O193(D7) (io), 124 I/O194,GCK5 (io), 129 I/O205(D6) (io), 138 I/O219,FCK3 (io), 141 I/O221(D5) (io), 142 I/O222(CS0) (io), 148 I/O239(D4) (io), 152 I/O241(D3) (io), 153 I/O242(~{CHECK}) (io), 159 I/O259(D2) (io), 163 I/O262,FCK4 (io), 173 I/O277(D1) (io), 177 I/O287(D0) (io), 178 I/O288,GCK6(~{CSOUT}) (io), 179 CCLK (in), 181 TSTCLK, 183 I/O289(A0) (io), 184 I/O290,GCK7(A1) (io), 187 I/O297(~{CS}1,A2) (io), 188 I/O298(A3) (io), 202 I/O325(A4) (io), 203 I/O326(A5) (io), 209 I/O335(A6) (io), 210 I/O336(A7) (io), 213 I/O337(A8) (io), 214 I/O338(A9) (io), 220 I/O347(A10) (io), 221 I/O348(A11) (io), 232 I/O371(A12) (io), 233 I/O372(A13) (io), 238 I/O383(A14) (io), 239 I/O384,GCK8(A15) (io)
part B pins: 79 I/O124 (io), 81 I/O125 (io), 82 I/O126 (io), 84 I/O135 (io), 85 I/O136 (io), 86 I/O137 (io), 87 I/O138 (io), 94 I/O151 (io), 95 I/O152 (io), 96 I/O153 (io), 97 I/O154 (io), 99 I/O163 (io), 100 I/O164 (io), 104 I/O167 (io), 105 I/O168 (io), 107 I/O171 (io), 108 I/O172 (io), 109 I/O177 (io), 110 I/O178 (io), 111 I/O179 (io), 112 I/O180 (io), 115 I/O189 (io), 116 I/O190 (io), 125 I/O195 (io), 126 I/O196 (io), 127 I/O199 (io), 128 I/O200 (io), 130 I/O206 (io), 131 I/O207 (io), 132 I/O208 (io), 133 I/O213 (io), 134 I/O214 (io), 136 I/O217 (io), 137 I/O218 (io), 139 I/O220 (io), 144 I/O233 (io), 145 I/O234 (io), 146 I/O235 (io), 147 I/O236 (io), 149 I/O240 (io), 154 I/O245 (io), 155 I/O246 (io), 156 I/O247 (io), 157 I/O248 (io), 160 I/O260 (io), 162 I/O261 (io), 164 I/O263 (io), 165 I/O264 (io), 167 I/O267 (io), 168 I/O268 (io), 169 I/O271 (io), 170 I/O272 (io), 171 I/O273 (io), 172 I/O274 (io), 174 I/O278 (io), 175 I/O285 (io), 176 I/O286 (io), 185 I/O291 (io), 186 I/O292 (io), 189 I/O301 (io), 190 I/O302 (io), 191 I/O303 (io), 192 I/O304 (io), 193 I/O309 (io), 194 I/O310 (io), 195 I/O311 (io), 197 I/O313 (io), 198 I/O314 (io), 199 I/O315 (io), 200 I/O316 (io), 205 I/O327 (io), 206 I/O328 (io), 207 I/O329 (io), 208 I/O330 (io), 215 I/O343 (io), 216 I/O344 (io), 217 I/O345 (io), 218 I/O346 (io), 223 I/O357 (io), 224 I/O358 (io), 225 I/O359 (io), 226 I/O360 (io), 228 I/O363 (io), 229 I/O364 (io), 230 I/O369 (io), 231 I/O370 (io), 234 I/O379 (io), 235 I/O380 (io), 236 I/O381 (io), 237 I/O382 (io)
part C pins: 1 GND (power), 14 GND (power), 19 VCC (power), 22 GND (power), 29 GND (power), 30 VCC (power), 37 GND (power), 40 VCC (power), 45 GND (power), 59 GND (power), 61 VCC (power), 75 GND (power), 80 VCC (power), 83 GND (power), 90 VCC (power), 91 GND (power), 98 GND (power), 101 VCC (power), 106 GND (power), 119 GND (power), 121 VCC (power), 135 GND (power), 140 VCC (power), 143 GND (power), 150 VCC (power), 151 GND (power), 158 GND (power), 161 VCC (power), 166 GND (power), 180 VCC (power), 182 GND (power), 196 GND (power), 201 VCC (power), 204 NC, 211 GND (power), 212 VCC (power), 219 NC, 222 VCC (power), 227 GND (power), 240 VCC (power)

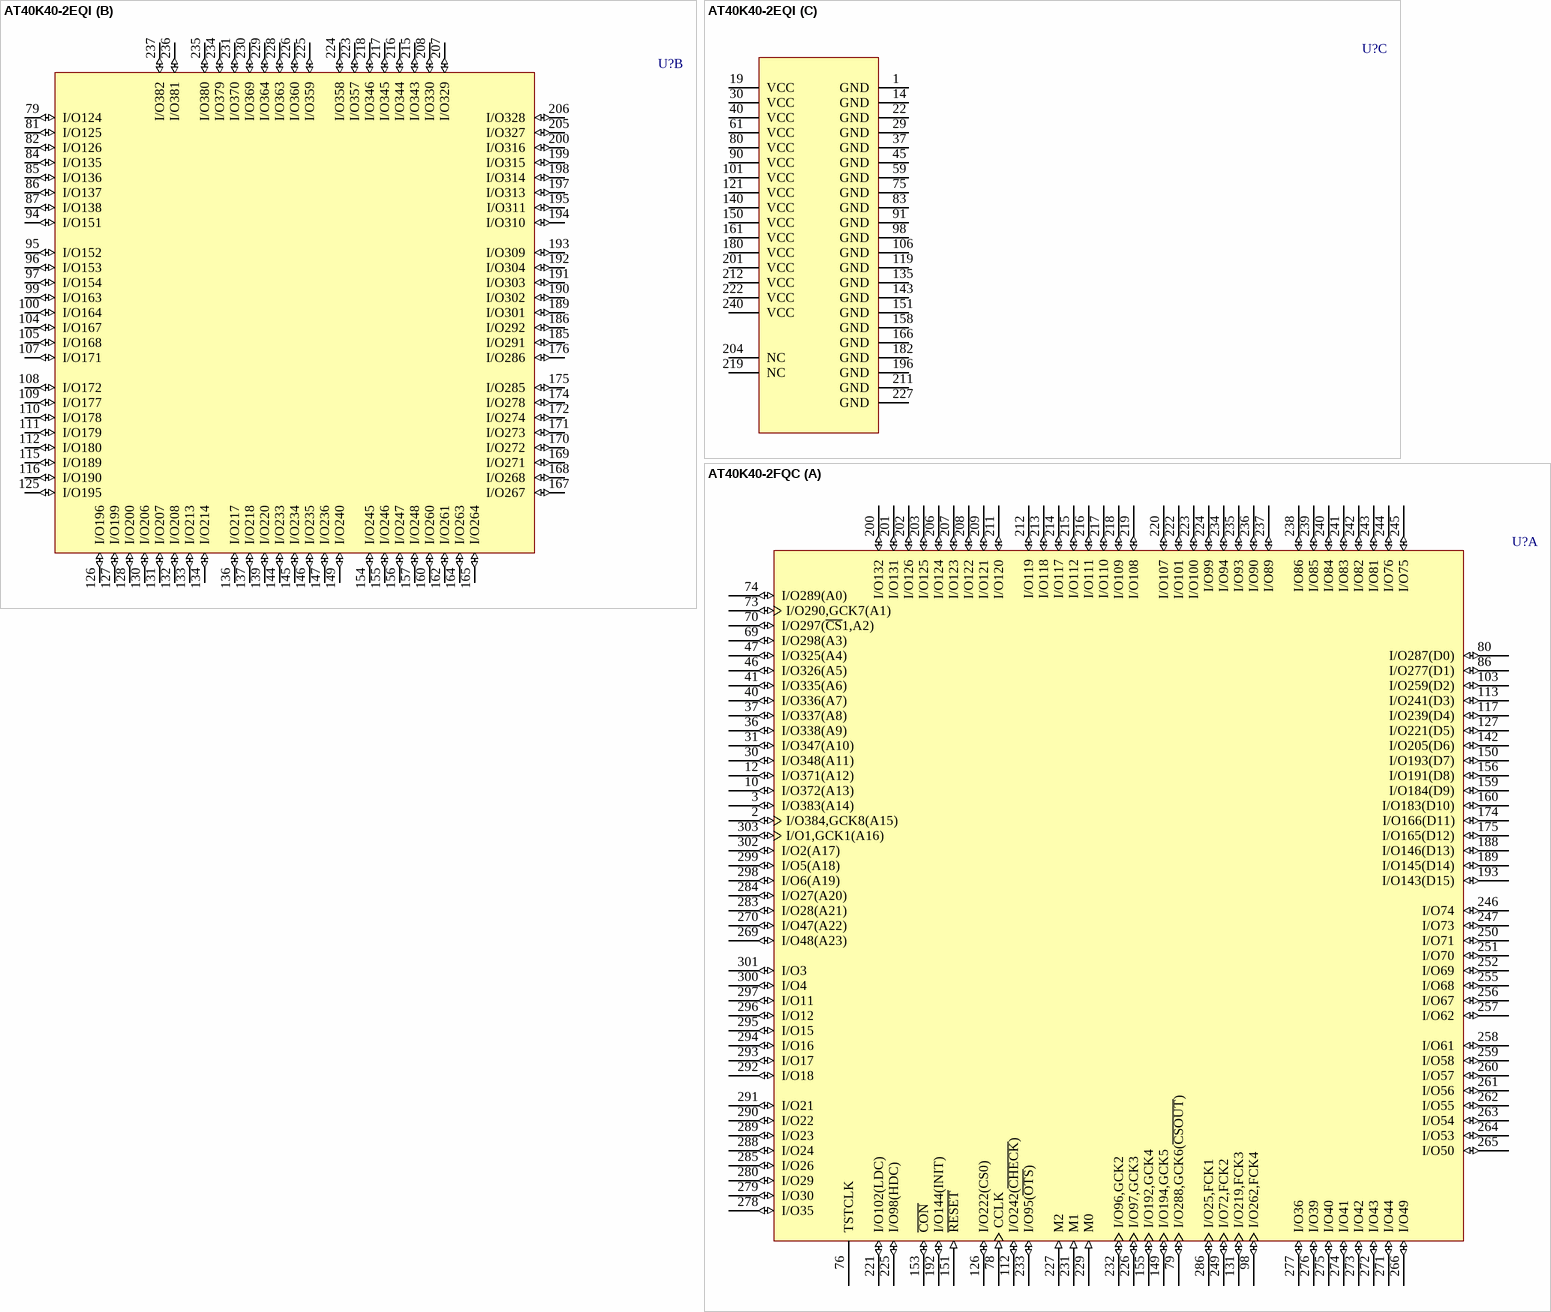
[diagram p61: symbols AT40K40-2EQI to AT40K40-2FQC]

## AT40K40-2EQI
designator U?
AT40K40 5.0V FPGA, 193 User I/Os, 240-Lead PQFP, Speed Grade 2, Industrial Grade; Published: 15-Apr-2002; LatestRevisionDate: 13-Apr-2006; LatestRevisionNote: IPC-7351 Footprint Added.; DatasheetVersion: Rev. 0896C-04/02; PackageVersion: rev.A, Mar-2002; PackageReference: 240Q1; Publisher: Altium Limited; PackageDescription: 240-Pin Shrink Quad Flat Pack 0.5 mm Pitch; Supplier 1: Digi-Key; Supplier Part Number 1: AT40K40-2EQI-ND; Supplier 2: Mouser; Supplier Part Number 2: 556-AT40K40-2EQI; Code_JEDEC: MS-029-GA; ComponentLink1Description: Manufacturer Link; ComponentLink1URL: http://www.atmel.com/products/FPGA/; ComponentLink2Description: Datasheet; ComponentLink2URL: http://www.atmel.com/dyn/resources/prod_documents/DOC0896.PDF; ComponentLink3Description: Atmel.com Home; ComponentLink3URL: http://www.atmel.com
footprint 240Q1_N (Shrink QFP, 240-Leads, Body 32x32mm, Pitch 0.5mm, IPC Medium Density)
footprint 240Q1_L (Shrink QFP, 240-Leads, Body 32x32mm, Pitch 0.5mm, IPC High Density)
footprint 240Q1_M (Shrink QFP, 240-Leads, Body 32x32mm, Pitch 0.5mm, IPC Low Density)
part A pins: 2 I/O1,GCK1(A16) (io), 3 I/O2(A17) (io), 4 I/O3 (io), 5 I/O4 (io), 6 I/O5(A18) (io), 7 I/O6(A19) (io), 8 I/O15 (io), 9 I/O16 (io), 10 I/O17 (io), 11 I/O18 (io), 12 I/O21 (io), 13 I/O22 (io), 15 I/O25,FCK1 (io), 16 I/O26 (io), 17 I/O27(A20) (io), 18 I/O28(A21) (io), 20 I/O29 (io), 21 I/O30 (io), 23 I/O41 (io), 24 I/O42 (io), 25 I/O43 (io), 26 I/O44 (io), 27 I/O47(A22) (io), 28 I/O48(A23) (io), 31 I/O49 (io), 32 I/O50 (io), 33 I/O53 (io), 34 I/O54 (io), 35 I/O55 (io), 36 I/O56 (io), 38 I/O67 (io), 39 I/O68 (io), 41 I/O69 (io), 42 I/O70 (io), 43 I/O71 (io), 44 I/O72,FCK2 (io), 46 I/O75 (io), 47 I/O76 (io), 48 I/O81 (io), 49 I/O82 (io), 50 I/O83 (io), 51 I/O84 (io), 52 I/O89 (io), 53 I/O90 (io), 54 I/O93 (io), 55 I/O94 (io), 56 I/O95(~{OTS}) (io), 57 I/O96,GCK2 (io), 58 M1 (in), 60 M0 (in), 62 M2 (in), 63 I/O97,GCK3 (io), 64 I/O98(HDC) (io), 65 I/O99 (io), 66 I/O100 (io), 67 I/O101 (io), 68 I/O102(LDC) (io), 69 I/O109 (io), 70 I/O110 (io), 71 I/O111 (io), 72 I/O112 (io), 73 I/O117 (io), 74 I/O118 (io), 76 I/O121 (io), 77 I/O122 (io), 78 I/O123 (io), 88 I/O143(D15) (io), 89 I/O144(INIT) (io), 92 I/O145(D14) (io), 93 I/O146(D13) (io), 102 I/O165(D12) (io), 103 I/O166(D11) (io), 113 I/O183(D10) (io), 114 I/O184(D9) (io), 117 I/O191(D8) (io), 118 I/O192,GCK4 (io), 120 ~{CON} (io), 122 ~{RESET} (in), 123 I/O193(D7) (io), 124 I/O194,GCK5 (io), 129 I/O205(D6) (io), 138 I/O219,FCK3 (io), 141 I/O221(D5) (io), 142 I/O222(CS0) (io), 148 I/O239(D4) (io), 152 I/O241(D3) (io), 153 I/O242(~{CHECK}) (io), 159 I/O259(D2) (io), 163 I/O262,FCK4 (io), 173 I/O277(D1) (io), 177 I/O287(D0) (io), 178 I/O288,GCK6(~{CSOUT}) (io), 179 CCLK (in), 181 TSTCLK, 183 I/O289(A0) (io), 184 I/O290,GCK7(A1) (io), 187 I/O297(~{CS}1,A2) (io), 188 I/O298(A3) (io), 202 I/O325(A4) (io), 203 I/O326(A5) (io), 209 I/O335(A6) (io), 210 I/O336(A7) (io), 213 I/O337(A8) (io), 214 I/O338(A9) (io), 220 I/O347(A10) (io), 221 I/O348(A11) (io), 232 I/O371(A12) (io), 233 I/O372(A13) (io), 238 I/O383(A14) (io), 239 I/O384,GCK8(A15) (io)
part B pins: 79 I/O124 (io), 81 I/O125 (io), 82 I/O126 (io), 84 I/O135 (io), 85 I/O136 (io), 86 I/O137 (io), 87 I/O138 (io), 94 I/O151 (io), 95 I/O152 (io), 96 I/O153 (io), 97 I/O154 (io), 99 I/O163 (io), 100 I/O164 (io), 104 I/O167 (io), 105 I/O168 (io), 107 I/O171 (io), 108 I/O172 (io), 109 I/O177 (io), 110 I/O178 (io), 111 I/O179 (io), 112 I/O180 (io), 115 I/O189 (io), 116 I/O190 (io), 125 I/O195 (io), 126 I/O196 (io), 127 I/O199 (io), 128 I/O200 (io), 130 I/O206 (io), 131 I/O207 (io), 132 I/O208 (io), 133 I/O213 (io), 134 I/O214 (io), 136 I/O217 (io), 137 I/O218 (io), 139 I/O220 (io), 144 I/O233 (io), 145 I/O234 (io), 146 I/O235 (io), 147 I/O236 (io), 149 I/O240 (io), 154 I/O245 (io), 155 I/O246 (io), 156 I/O247 (io), 157 I/O248 (io), 160 I/O260 (io), 162 I/O261 (io), 164 I/O263 (io), 165 I/O264 (io), 167 I/O267 (io), 168 I/O268 (io), 169 I/O271 (io), 170 I/O272 (io), 171 I/O273 (io), 172 I/O274 (io), 174 I/O278 (io), 175 I/O285 (io), 176 I/O286 (io), 185 I/O291 (io), 186 I/O292 (io), 189 I/O301 (io), 190 I/O302 (io), 191 I/O303 (io), 192 I/O304 (io), 193 I/O309 (io), 194 I/O310 (io), 195 I/O311 (io), 197 I/O313 (io), 198 I/O314 (io), 199 I/O315 (io), 200 I/O316 (io), 205 I/O327 (io), 206 I/O328 (io), 207 I/O329 (io), 208 I/O330 (io), 215 I/O343 (io), 216 I/O344 (io), 217 I/O345 (io), 218 I/O346 (io), 223 I/O357 (io), 224 I/O358 (io), 225 I/O359 (io), 226 I/O360 (io), 228 I/O363 (io), 229 I/O364 (io), 230 I/O369 (io), 231 I/O370 (io), 234 I/O379 (io), 235 I/O380 (io), 236 I/O381 (io), 237 I/O382 (io)
part C pins: 1 GND (power), 14 GND (power), 19 VCC (power), 22 GND (power), 29 GND (power), 30 VCC (power), 37 GND (power), 40 VCC (power), 45 GND (power), 59 GND (power), 61 VCC (power), 75 GND (power), 80 VCC (power), 83 GND (power), 90 VCC (power), 91 GND (power), 98 GND (power), 101 VCC (power), 106 GND (power), 119 GND (power), 121 VCC (power), 135 GND (power), 140 VCC (power), 143 GND (power), 150 VCC (power), 151 GND (power), 158 GND (power), 161 VCC (power), 166 GND (power), 180 VCC (power), 182 GND (power), 196 GND (power), 201 VCC (power), 204 NC, 211 GND (power), 212 VCC (power), 219 NC, 222 VCC (power), 227 GND (power), 240 VCC (power)

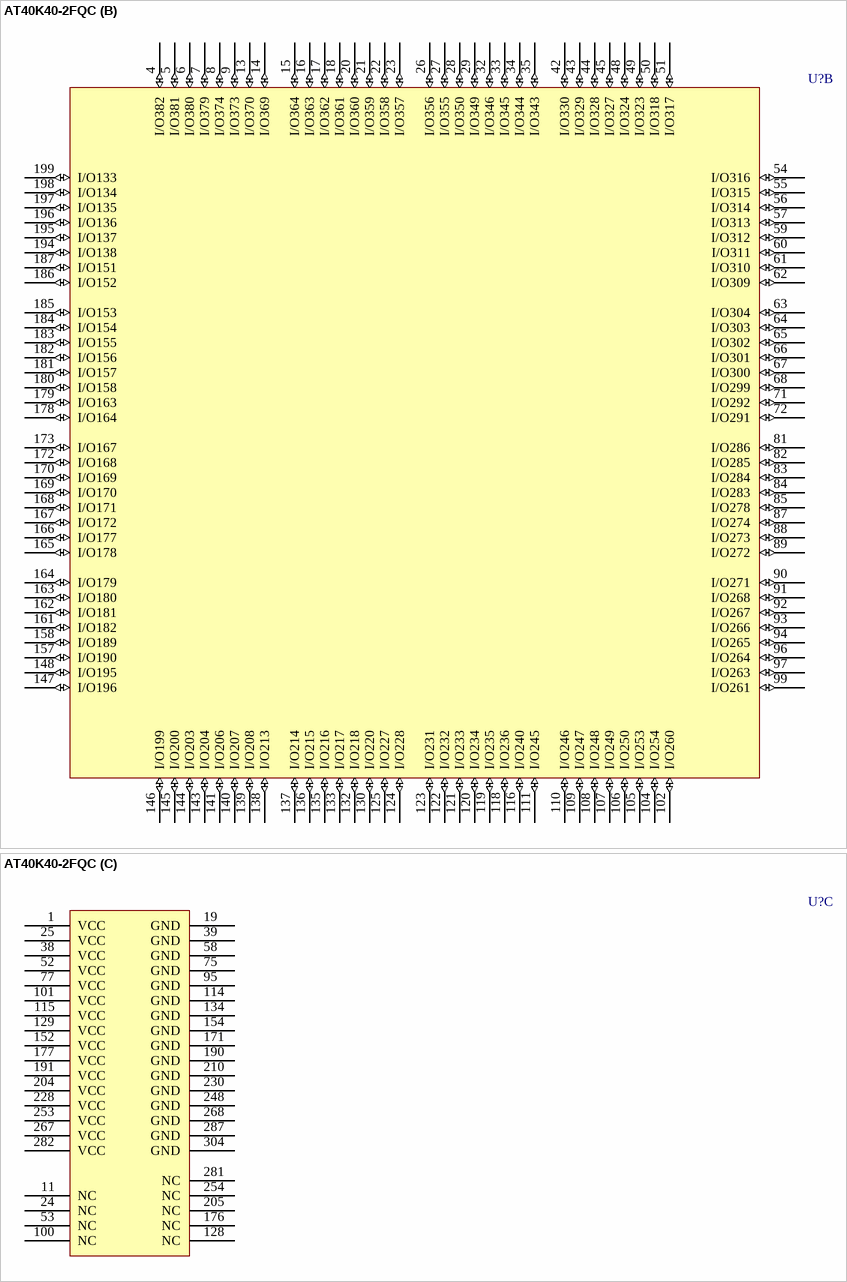
[diagram p62: symbol AT40K40-2FQC]

## AT40K40-2FQC
designator U?
AT40K40 5.0V FPGA, 256 User I/Os, 304-Lead PQFP, Speed Grade 2, Commercial Grade; Published: 15-Apr-2002; LatestRevisionDate: 13-Apr-2006; LatestRevisionNote: IPC-7351 Footprint Added.; DatasheetVersion: Rev. 0896C-04/02; PackageVersion: rev.A, Mar-2002; PackageReference: 304Q1; Publisher: Altium Limited; PackageDescription: 304-Pin Shrink Quad Flat Pack 0.5 mm Pitch; Supplier 1: Digi-Key; Supplier Part Number 1: AT40K40-2FQC-ND; Supplier 2: Mouser; Supplier Part Number 2: 556-AT40K40-2FQC; Code_JEDEC: MS-029-JA; ComponentLink1Description: Manufacturer Link; ComponentLink1URL: http://www.atmel.com/products/FPGA/; ComponentLink2Description: Datasheet; ComponentLink2URL: http://www.atmel.com/dyn/resources/prod_documents/DOC0896.PDF; ComponentLink3Description: Atmel.com Home; ComponentLink3URL: http://www.atmel.com
footprint 304Q1_N (Shrink QFP, 304-Leads, Body 40x40mm, Pitch 0.5mm, IPC Medium Density)
footprint 304Q1_L (Shrink QFP, 304-Leads, Body 40x40mm, Pitch 0.5mm, IPC High Density)
footprint 304Q1_M (Shrink QFP, 304-Leads, Body 40x40mm, Pitch 0.5mm, IPC Low Density)
part A pins: 2 I/O384,GCK8(A15) (io), 3 I/O383(A14) (io), 10 I/O372(A13) (io), 12 I/O371(A12) (io), 30 I/O348(A11) (io), 31 I/O347(A10) (io), 36 I/O338(A9) (io), 37 I/O337(A8) (io), 40 I/O336(A7) (io), 41 I/O335(A6) (io), 46 I/O326(A5) (io), 47 I/O325(A4) (io), 69 I/O298(A3) (io), 70 I/O297(~{CS}1,A2) (io), 73 I/O290,GCK7(A1) (io), 74 I/O289(A0) (io), 76 TSTCLK, 78 CCLK (in), 79 I/O288,GCK6(~{CSOUT}) (io), 80 I/O287(D0) (io), 86 I/O277(D1) (io), 98 I/O262,FCK4 (io), 103 I/O259(D2) (io), 112 I/O242(~{CHECK}) (io), 113 I/O241(D3) (io), 117 I/O239(D4) (io), 126 I/O222(CS0) (io), 127 I/O221(D5) (io), 131 I/O219,FCK3 (io), 142 I/O205(D6) (io), 149 I/O194,GCK5 (io), 150 I/O193(D7) (io), 151 ~{RESET} (in), 153 ~{CON} (io), 155 I/O192,GCK4 (io), 156 I/O191(D8) (io), 159 I/O184(D9) (io), 160 I/O183(D10) (io), 174 I/O166(D11) (io), 175 I/O165(D12) (io), 188 I/O146(D13) (io), 189 I/O145(D14) (io), 192 I/O144(INIT) (io), 193 I/O143(D15) (io), 200 I/O132 (io), 201 I/O131 (io), 202 I/O126 (io), 203 I/O125 (io), 206 I/O124 (io), 207 I/O123 (io), 208 I/O122 (io), 209 I/O121 (io), 211 I/O120 (io), 212 I/O119 (io), 213 I/O118 (io), 214 I/O117 (io), 215 I/O112 (io), 216 I/O111 (io), 217 I/O110 (io), 218 I/O109 (io), 219 I/O108 (io), 220 I/O107 (io), 221 I/O102(LDC) (io), 222 I/O101 (io), 223 I/O100 (io), 224 I/O99 (io), 225 I/O98(HDC) (io), 226 I/O97,GCK3 (io), 227 M2 (in), 229 M0 (in), 231 M1 (in), 232 I/O96,GCK2 (io), 233 I/O95(~{OTS}) (io), 234 I/O94 (io), 235 I/O93 (io), 236 I/O90 (io), 237 I/O89 (io), 238 I/O86 (io), 239 I/O85 (io), 240 I/O84 (io), 241 I/O83 (io), 242 I/O82 (io), 243 I/O81 (io), 244 I/O76 (io), 245 I/O75 (io), 246 I/O74 (io), 247 I/O73 (io), 249 I/O72,FCK2 (io), 250 I/O71 (io), 251 I/O70 (io), 252 I/O69 (io), 255 I/O68 (io), 256 I/O67 (io), 257 I/O62 (io), 258 I/O61 (io), 259 I/O58 (io), 260 I/O57 (io), 261 I/O56 (io), 262 I/O55 (io), 263 I/O54 (io), 264 I/O53 (io), 265 I/O50 (io), 266 I/O49 (io), 269 I/O48(A23) (io), 270 I/O47(A22) (io), 271 I/O44 (io), 272 I/O43 (io), 273 I/O42 (io), 274 I/O41 (io), 275 I/O40 (io), 276 I/O39 (io), 277 I/O36 (io), 278 I/O35 (io), 279 I/O30 (io), 280 I/O29 (io), 283 I/O28(A21) (io), 284 I/O27(A20) (io), 285 I/O26 (io), 286 I/O25,FCK1 (io), 288 I/O24 (io), 289 I/O23 (io), 290 I/O22 (io), 291 I/O21 (io), 292 I/O18 (io), 293 I/O17 (io), 294 I/O16 (io), 295 I/O15 (io), 296 I/O12 (io), 297 I/O11 (io), 298 I/O6(A19) (io), 299 I/O5(A18) (io), 300 I/O4 (io), 301 I/O3 (io), 302 I/O2(A17) (io), 303 I/O1,GCK1(A16) (io)
part B pins: 4 I/O382 (io), 5 I/O381 (io), 6 I/O380 (io), 7 I/O379 (io), 8 I/O374 (io), 9 I/O373 (io), 13 I/O370 (io), 14 I/O369 (io), 15 I/O364 (io), 16 I/O363 (io), 17 I/O362 (io), 18 I/O361 (io), 20 I/O360 (io), 21 I/O359 (io), 22 I/O358 (io), 23 I/O357 (io), 26 I/O356 (io), 27 I/O355 (io), 28 I/O350 (io), 29 I/O349 (io), 32 I/O346 (io), 33 I/O345 (io), 34 I/O344 (io), 35 I/O343 (io), 42 I/O330 (io), 43 I/O329 (io), 44 I/O328 (io), 45 I/O327 (io), 48 I/O324 (io), 49 I/O323 (io), 50 I/O318 (io), 51 I/O317 (io), 54 I/O316 (io), 55 I/O315 (io), 56 I/O314 (io), 57 I/O313 (io), 59 I/O312 (io), 60 I/O311 (io), 61 I/O310 (io), 62 I/O309 (io), 63 I/O304 (io), 64 I/O303 (io), 65 I/O302 (io), 66 I/O301 (io), 67 I/O300 (io), 68 I/O299 (io), 71 I/O292 (io), 72 I/O291 (io), 81 I/O286 (io), 82 I/O285 (io), 83 I/O284 (io), 84 I/O283 (io), 85 I/O278 (io), 87 I/O274 (io), 88 I/O273 (io), 89 I/O272 (io), 90 I/O271 (io), 91 I/O268 (io), 92 I/O267 (io), 93 I/O266 (io), 94 I/O265 (io), 96 I/O264 (io), 97 I/O263 (io), 99 I/O261 (io), 102 I/O260 (io), 104 I/O254 (io), 105 I/O253 (io), 106 I/O250 (io), 107 I/O249 (io), 108 I/O248 (io), 109 I/O247 (io), 110 I/O246 (io), 111 I/O245 (io), 116 I/O240 (io), 118 I/O236 (io), 119 I/O235 (io), 120 I/O234 (io), 121 I/O233 (io), 122 I/O232 (io), 123 I/O231 (io), 124 I/O228 (io), 125 I/O227 (io), 130 I/O220 (io), 132 I/O218 (io), 133 I/O217 (io), 135 I/O216 (io), 136 I/O215 (io), 137 I/O214 (io), 138 I/O213 (io), 139 I/O208 (io), 140 I/O207 (io), 141 I/O206 (io), 143 I/O204 (io), 144 I/O203 (io), 145 I/O200 (io), 146 I/O199 (io), 147 I/O196 (io), 148 I/O195 (io), 157 I/O190 (io), 158 I/O189 (io), 161 I/O182 (io), 162 I/O181 (io), 163 I/O180 (io), 164 I/O179 (io), 165 I/O178 (io), 166 I/O177 (io), 167 I/O172 (io), 168 I/O171 (io), 169 I/O170 (io), 170 I/O169 (io), 172 I/O168 (io), 173 I/O167 (io), 178 I/O164 (io), 179 I/O163 (io), 180 I/O158 (io), 181 I/O157 (io), 182 I/O156 (io), 183 I/O155 (io), 184 I/O154 (io), 185 I/O153 (io), 186 I/O152 (io), 187 I/O151 (io), 194 I/O138 (io), 195 I/O137 (io), 196 I/O136 (io), 197 I/O135 (io), 198 I/O134 (io), 199 I/O133 (io)
part C pins: 1 VCC (power), 11 NC, 19 GND (power), 24 NC, 25 VCC (power), 38 VCC (power), 39 GND (power), 52 VCC (power), 53 NC, 58 GND (power), 75 GND (power), 77 VCC (power), 95 GND (power), 100 NC, 101 VCC (power), 114 GND (power), 115 VCC (power), 128 NC, 129 VCC (power), 134 GND (power), 152 VCC (power), 154 GND (power), 171 GND (power), 176 NC, 177 VCC (power), 190 GND (power), 191 VCC (power), 204 VCC (power), 205 NC, 210 GND (power), 228 VCC (power), 230 GND (power), 248 GND (power), 253 VCC (power), 254 NC, 267 VCC (power), 268 GND (power), 281 NC, 282 VCC (power), 287 GND (power), 304 GND (power)

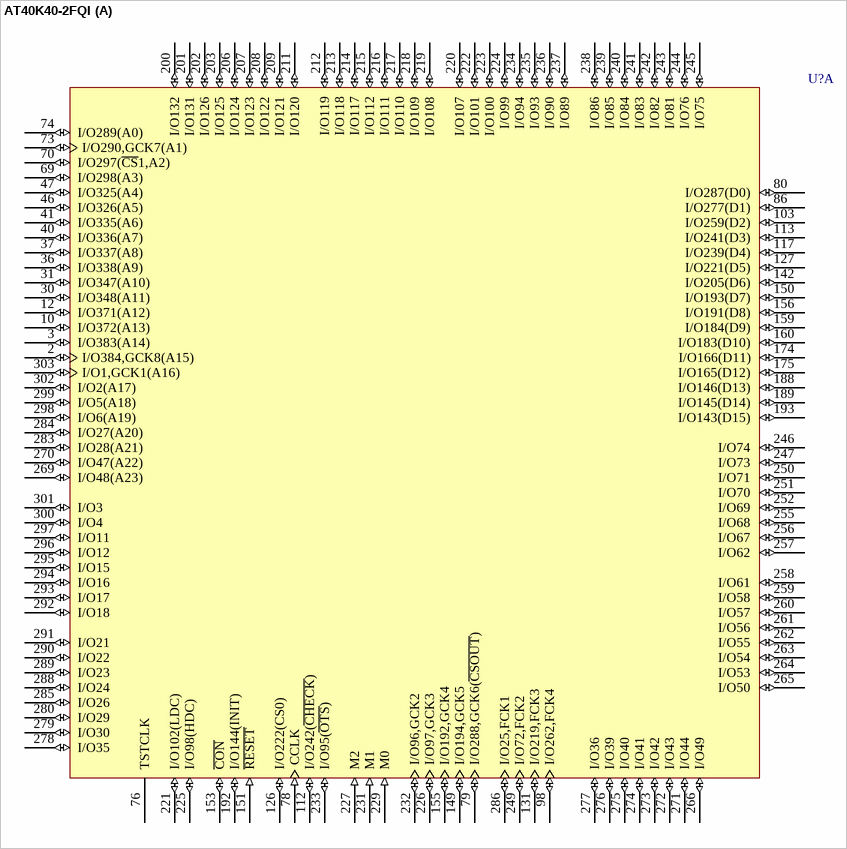
[diagram p63: symbol AT40K40-2FQI]

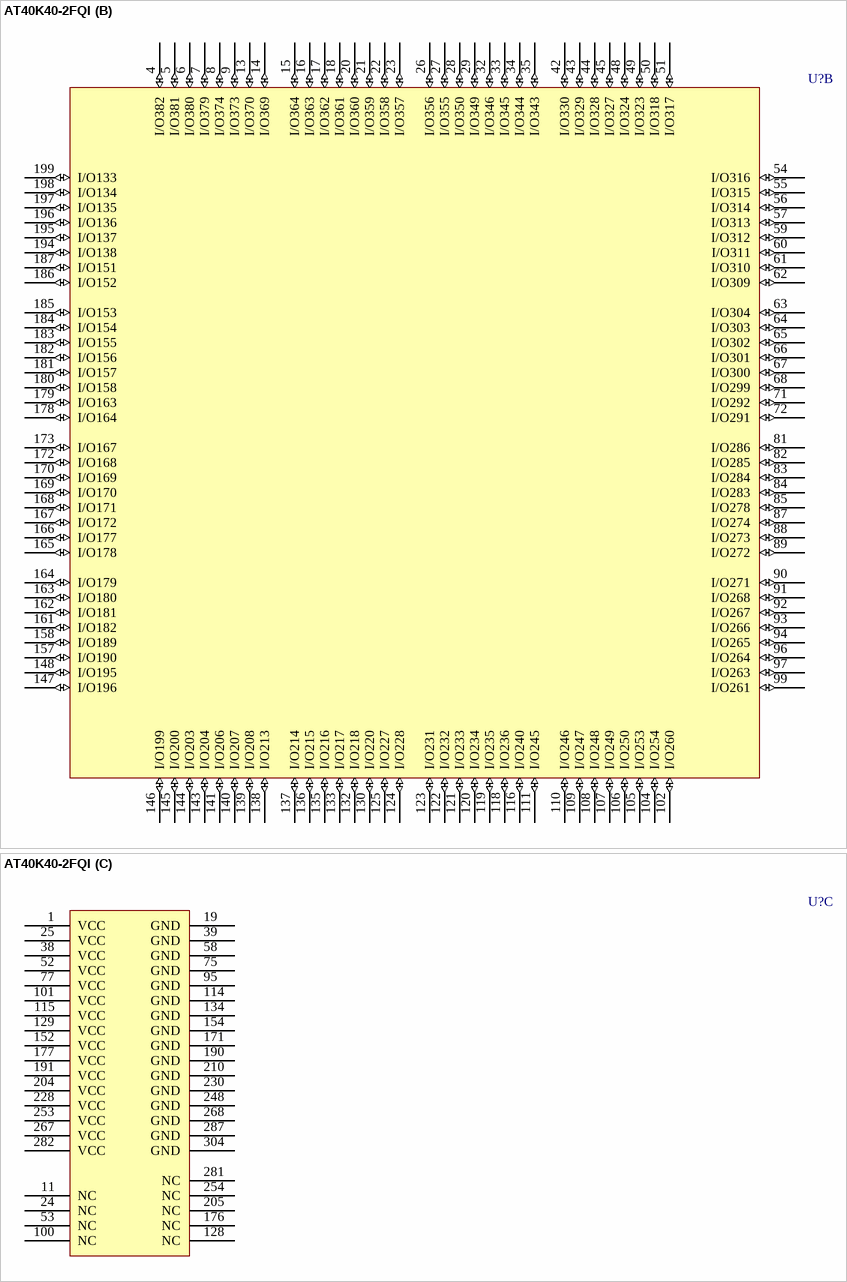
[diagram p64: symbol AT40K40-2FQI]

## AT40K40-2FQI
designator U?
AT40K40 5.0V FPGA, 256 User I/Os, 304-Lead PQFP, Speed Grade 2, Industrial Grade; Published: 15-Apr-2002; LatestRevisionDate: 13-Apr-2006; LatestRevisionNote: IPC-7351 Footprint Added.; DatasheetVersion: Rev. 0896C-04/02; PackageVersion: rev.A, Mar-2002; PackageReference: 304Q1; Publisher: Altium Limited; PackageDescription: 304-Pin Shrink Quad Flat Pack 0.5 mm Pitch; Supplier 1: Digi-Key; Supplier Part Number 1: AT40K40-2FQI-ND; Supplier 2: Mouser; Supplier Part Number 2: 556-AT40K40-2FQI; Code_JEDEC: MS-029-JA; ComponentLink1Description: Manufacturer Link; ComponentLink1URL: http://www.atmel.com/products/FPGA/; ComponentLink2Description: Datasheet; ComponentLink2URL: http://www.atmel.com/dyn/resources/prod_documents/DOC0896.PDF; ComponentLink3Description: Atmel.com Home; ComponentLink3URL: http://www.atmel.com
footprint 304Q1_N (Shrink QFP, 304-Leads, Body 40x40mm, Pitch 0.5mm, IPC Medium Density)
footprint 304Q1_L (Shrink QFP, 304-Leads, Body 40x40mm, Pitch 0.5mm, IPC High Density)
footprint 304Q1_M (Shrink QFP, 304-Leads, Body 40x40mm, Pitch 0.5mm, IPC Low Density)
part A pins: 2 I/O384,GCK8(A15) (io), 3 I/O383(A14) (io), 10 I/O372(A13) (io), 12 I/O371(A12) (io), 30 I/O348(A11) (io), 31 I/O347(A10) (io), 36 I/O338(A9) (io), 37 I/O337(A8) (io), 40 I/O336(A7) (io), 41 I/O335(A6) (io), 46 I/O326(A5) (io), 47 I/O325(A4) (io), 69 I/O298(A3) (io), 70 I/O297(~{CS}1,A2) (io), 73 I/O290,GCK7(A1) (io), 74 I/O289(A0) (io), 76 TSTCLK, 78 CCLK (in), 79 I/O288,GCK6(~{CSOUT}) (io), 80 I/O287(D0) (io), 86 I/O277(D1) (io), 98 I/O262,FCK4 (io), 103 I/O259(D2) (io), 112 I/O242(~{CHECK}) (io), 113 I/O241(D3) (io), 117 I/O239(D4) (io), 126 I/O222(CS0) (io), 127 I/O221(D5) (io), 131 I/O219,FCK3 (io), 142 I/O205(D6) (io), 149 I/O194,GCK5 (io), 150 I/O193(D7) (io), 151 ~{RESET} (in), 153 ~{CON} (io), 155 I/O192,GCK4 (io), 156 I/O191(D8) (io), 159 I/O184(D9) (io), 160 I/O183(D10) (io), 174 I/O166(D11) (io), 175 I/O165(D12) (io), 188 I/O146(D13) (io), 189 I/O145(D14) (io), 192 I/O144(INIT) (io), 193 I/O143(D15) (io), 200 I/O132 (io), 201 I/O131 (io), 202 I/O126 (io), 203 I/O125 (io), 206 I/O124 (io), 207 I/O123 (io), 208 I/O122 (io), 209 I/O121 (io), 211 I/O120 (io), 212 I/O119 (io), 213 I/O118 (io), 214 I/O117 (io), 215 I/O112 (io), 216 I/O111 (io), 217 I/O110 (io), 218 I/O109 (io), 219 I/O108 (io), 220 I/O107 (io), 221 I/O102(LDC) (io), 222 I/O101 (io), 223 I/O100 (io), 224 I/O99 (io), 225 I/O98(HDC) (io), 226 I/O97,GCK3 (io), 227 M2 (in), 229 M0 (in), 231 M1 (in), 232 I/O96,GCK2 (io), 233 I/O95(~{OTS}) (io), 234 I/O94 (io), 235 I/O93 (io), 236 I/O90 (io), 237 I/O89 (io), 238 I/O86 (io), 239 I/O85 (io), 240 I/O84 (io), 241 I/O83 (io), 242 I/O82 (io), 243 I/O81 (io), 244 I/O76 (io), 245 I/O75 (io), 246 I/O74 (io), 247 I/O73 (io), 249 I/O72,FCK2 (io), 250 I/O71 (io), 251 I/O70 (io), 252 I/O69 (io), 255 I/O68 (io), 256 I/O67 (io), 257 I/O62 (io), 258 I/O61 (io), 259 I/O58 (io), 260 I/O57 (io), 261 I/O56 (io), 262 I/O55 (io), 263 I/O54 (io), 264 I/O53 (io), 265 I/O50 (io), 266 I/O49 (io), 269 I/O48(A23) (io), 270 I/O47(A22) (io), 271 I/O44 (io), 272 I/O43 (io), 273 I/O42 (io), 274 I/O41 (io), 275 I/O40 (io), 276 I/O39 (io), 277 I/O36 (io), 278 I/O35 (io), 279 I/O30 (io), 280 I/O29 (io), 283 I/O28(A21) (io), 284 I/O27(A20) (io), 285 I/O26 (io), 286 I/O25,FCK1 (io), 288 I/O24 (io), 289 I/O23 (io), 290 I/O22 (io), 291 I/O21 (io), 292 I/O18 (io), 293 I/O17 (io), 294 I/O16 (io), 295 I/O15 (io), 296 I/O12 (io), 297 I/O11 (io), 298 I/O6(A19) (io), 299 I/O5(A18) (io), 300 I/O4 (io), 301 I/O3 (io), 302 I/O2(A17) (io), 303 I/O1,GCK1(A16) (io)
part B pins: 4 I/O382 (io), 5 I/O381 (io), 6 I/O380 (io), 7 I/O379 (io), 8 I/O374 (io), 9 I/O373 (io), 13 I/O370 (io), 14 I/O369 (io), 15 I/O364 (io), 16 I/O363 (io), 17 I/O362 (io), 18 I/O361 (io), 20 I/O360 (io), 21 I/O359 (io), 22 I/O358 (io), 23 I/O357 (io), 26 I/O356 (io), 27 I/O355 (io), 28 I/O350 (io), 29 I/O349 (io), 32 I/O346 (io), 33 I/O345 (io), 34 I/O344 (io), 35 I/O343 (io), 42 I/O330 (io), 43 I/O329 (io), 44 I/O328 (io), 45 I/O327 (io), 48 I/O324 (io), 49 I/O323 (io), 50 I/O318 (io), 51 I/O317 (io), 54 I/O316 (io), 55 I/O315 (io), 56 I/O314 (io), 57 I/O313 (io), 59 I/O312 (io), 60 I/O311 (io), 61 I/O310 (io), 62 I/O309 (io), 63 I/O304 (io), 64 I/O303 (io), 65 I/O302 (io), 66 I/O301 (io), 67 I/O300 (io), 68 I/O299 (io), 71 I/O292 (io), 72 I/O291 (io), 81 I/O286 (io), 82 I/O285 (io), 83 I/O284 (io), 84 I/O283 (io), 85 I/O278 (io), 87 I/O274 (io), 88 I/O273 (io), 89 I/O272 (io), 90 I/O271 (io), 91 I/O268 (io), 92 I/O267 (io), 93 I/O266 (io), 94 I/O265 (io), 96 I/O264 (io), 97 I/O263 (io), 99 I/O261 (io), 102 I/O260 (io), 104 I/O254 (io), 105 I/O253 (io), 106 I/O250 (io), 107 I/O249 (io), 108 I/O248 (io), 109 I/O247 (io), 110 I/O246 (io), 111 I/O245 (io), 116 I/O240 (io), 118 I/O236 (io), 119 I/O235 (io), 120 I/O234 (io), 121 I/O233 (io), 122 I/O232 (io), 123 I/O231 (io), 124 I/O228 (io), 125 I/O227 (io), 130 I/O220 (io), 132 I/O218 (io), 133 I/O217 (io), 135 I/O216 (io), 136 I/O215 (io), 137 I/O214 (io), 138 I/O213 (io), 139 I/O208 (io), 140 I/O207 (io), 141 I/O206 (io), 143 I/O204 (io), 144 I/O203 (io), 145 I/O200 (io), 146 I/O199 (io), 147 I/O196 (io), 148 I/O195 (io), 157 I/O190 (io), 158 I/O189 (io), 161 I/O182 (io), 162 I/O181 (io), 163 I/O180 (io), 164 I/O179 (io), 165 I/O178 (io), 166 I/O177 (io), 167 I/O172 (io), 168 I/O171 (io), 169 I/O170 (io), 170 I/O169 (io), 172 I/O168 (io), 173 I/O167 (io), 178 I/O164 (io), 179 I/O163 (io), 180 I/O158 (io), 181 I/O157 (io), 182 I/O156 (io), 183 I/O155 (io), 184 I/O154 (io), 185 I/O153 (io), 186 I/O152 (io), 187 I/O151 (io), 194 I/O138 (io), 195 I/O137 (io), 196 I/O136 (io), 197 I/O135 (io), 198 I/O134 (io), 199 I/O133 (io)
part C pins: 1 VCC (power), 11 NC, 19 GND (power), 24 NC, 25 VCC (power), 38 VCC (power), 39 GND (power), 52 VCC (power), 53 NC, 58 GND (power), 75 GND (power), 77 VCC (power), 95 GND (power), 100 NC, 101 VCC (power), 114 GND (power), 115 VCC (power), 128 NC, 129 VCC (power), 134 GND (power), 152 VCC (power), 154 GND (power), 171 GND (power), 176 NC, 177 VCC (power), 190 GND (power), 191 VCC (power), 204 VCC (power), 205 NC, 210 GND (power), 228 VCC (power), 230 GND (power), 248 GND (power), 253 VCC (power), 254 NC, 267 VCC (power), 268 GND (power), 281 NC, 282 VCC (power), 287 GND (power), 304 GND (power)

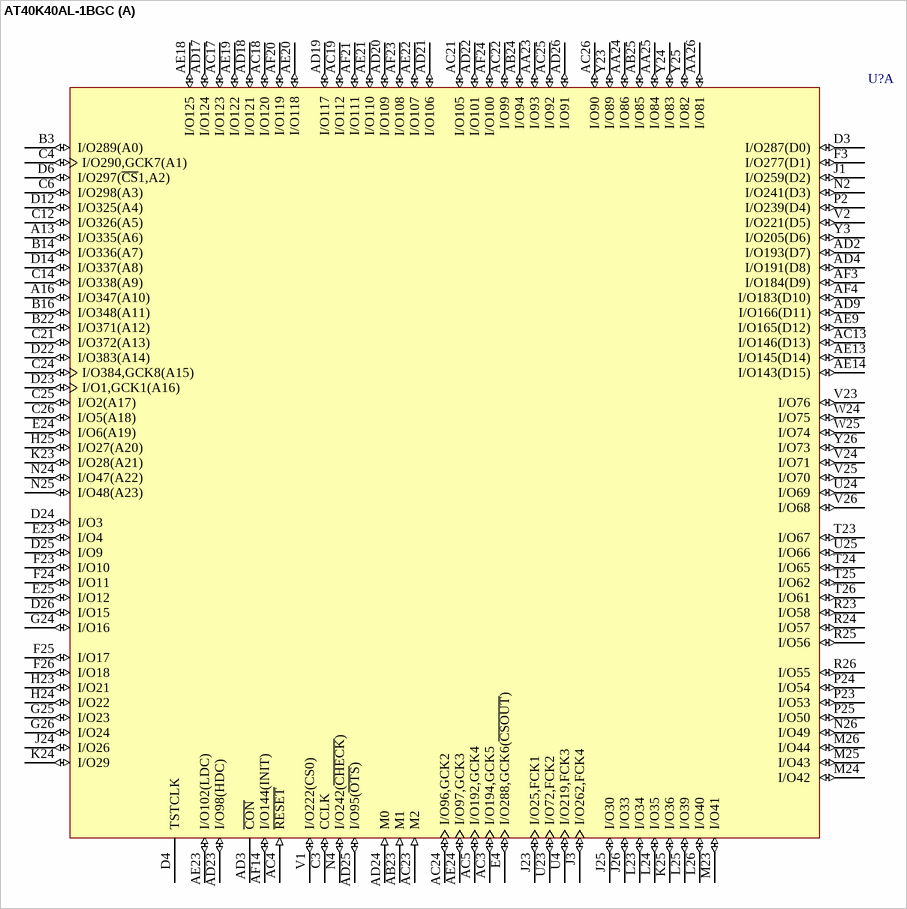
[diagram p65: symbol AT40K40AL-1BGC]

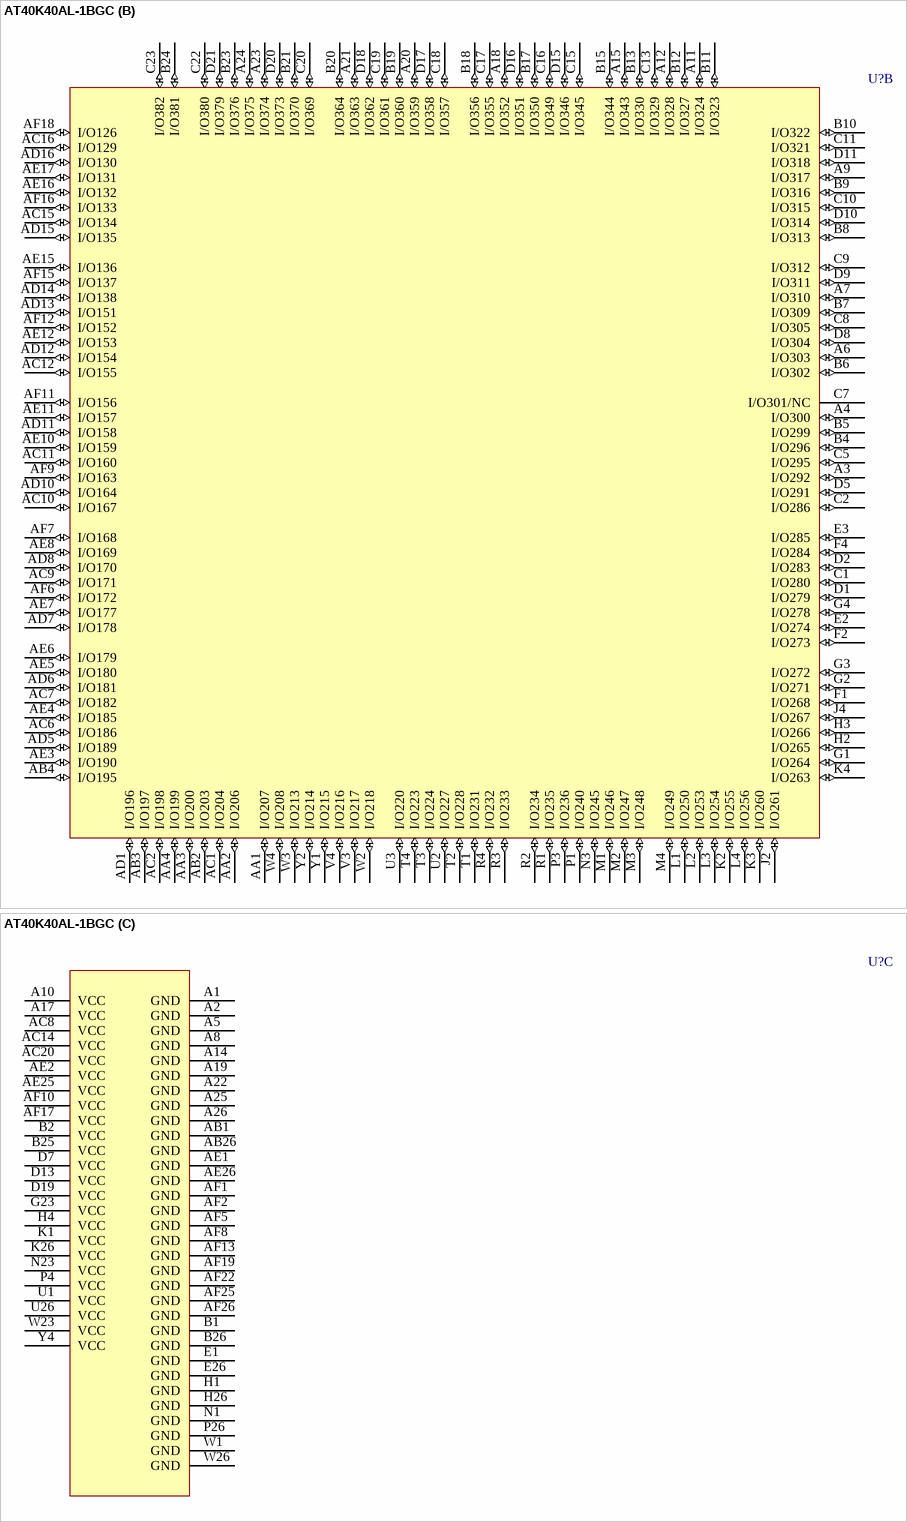
[diagram p66: symbol AT40K40AL-1BGC]